# Altium integrated library ST Microcontroller 8-Bit.IntLib: 1326 symbols (part 7 of 31)
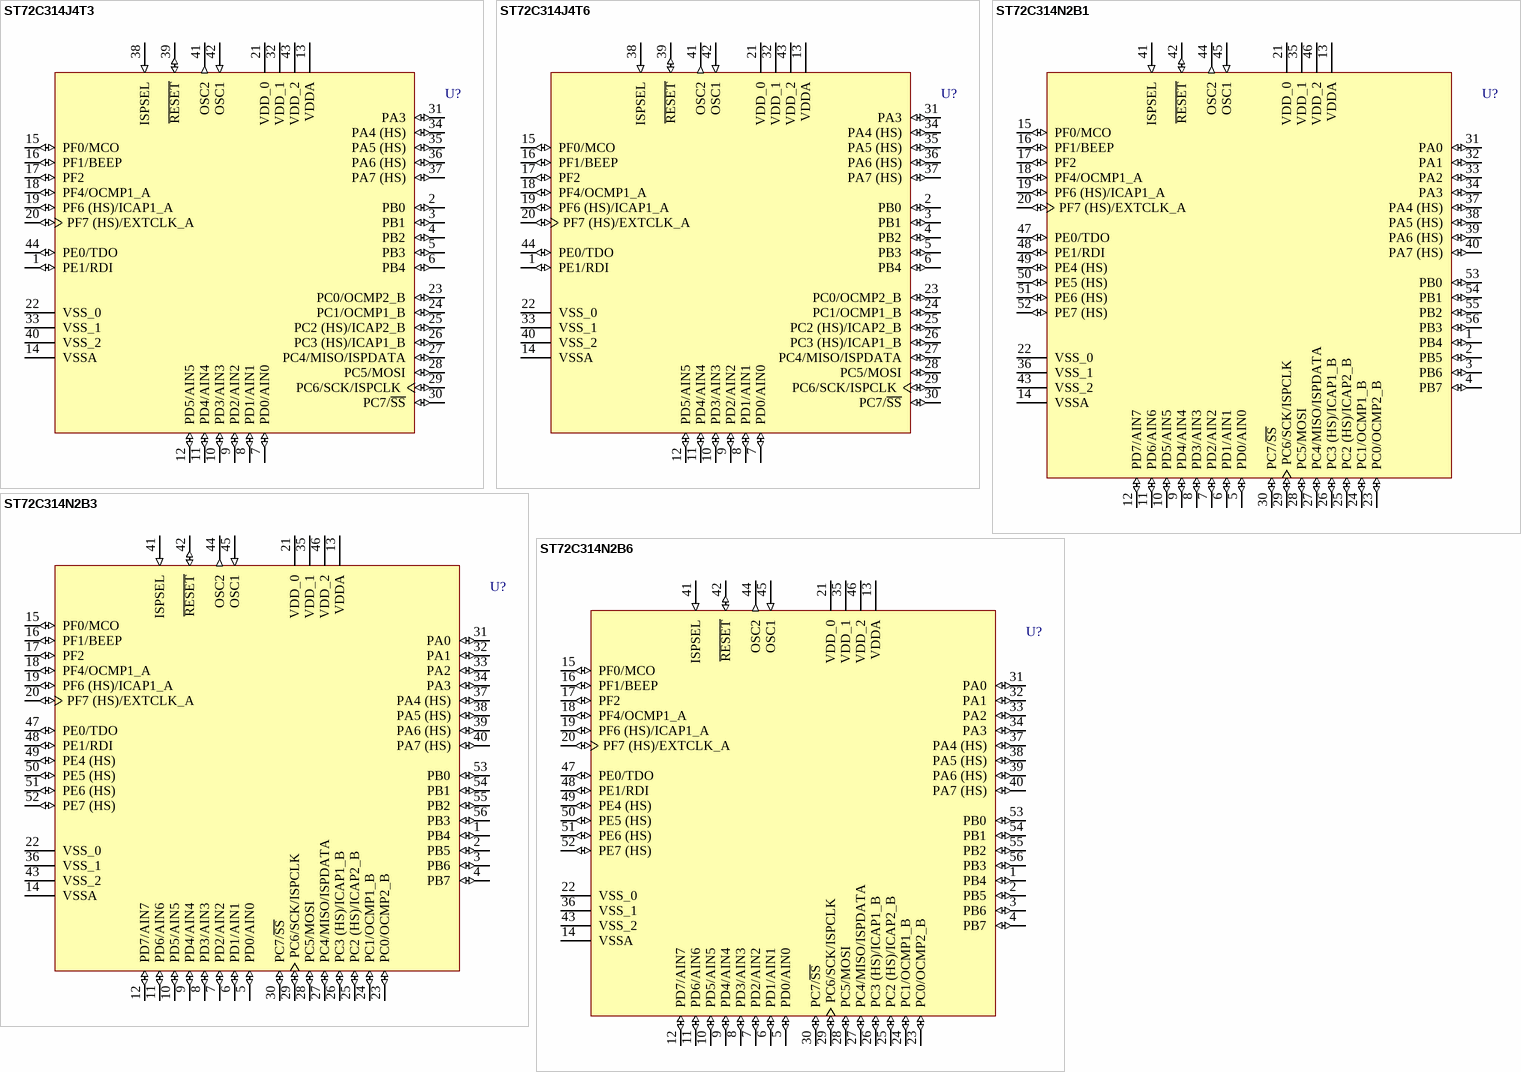
[diagram p173: symbols ST72C314J4T3 to ST72C314N2B6]

## ST72C314N2B3
designator U?
8-Bit MCU with 8k FLASH Memory, 384b RAM, ADC, 16-Bit Timers, SPI and SCI Interface, 56-Pin PDIP, Automotive; Note: Pins 1-4, 15-17, 31-34 and 53-56 are External Interrupt (EI) pins.; Published: 26-May-2004; DatasheetDocument: rev2.5, Apr-2003; PackageDocument: Jan-2002; PackageReference: PSDIP56; Publisher: Altium Limited
footprint PSDIP56 (DIP, Plastic Shrink; 56 Leads; Row Spacing 15.24 mm; Pitch 1.78 mm)
pins: 1 PB4 (io), 2 PB5 (io), 3 PB6 (io), 4 PB7 (io), 5 PD0/AIN0 (io), 6 PD1/AIN1 (io), 7 PD2/AIN2 (io), 8 PD3/AIN3 (io), 9 PD4/AIN4 (io), 10 PD5/AIN5 (io), 11 PD6/AIN6 (io), 12 PD7/AIN7 (io), 13 VDDA (power), 14 VSSA (power), 15 PF0/MCO (io), 16 PF1/BEEP (io), 17 PF2 (io), 18 PF4/OCMP1_A (io), 19 PF6 (HS)/ICAP1_A (io), 20 PF7 (HS)/EXTCLK_A (io), 21 VDD_0 (power), 22 VSS_0 (power), 23 PC0/OCMP2_B (io), 24 PC1/OCMP1_B (io), 25 PC2 (HS)/ICAP2_B (io), 26 PC3 (HS)/ICAP1_B (io), 27 PC4/MISO/ISPDATA (io), 28 PC5/MOSI (io), 29 PC6/SCK/ISPCLK (io), 30 PC7/~{SS} (io), 31 PA0 (io), 32 PA1 (io), 33 PA2 (io), 34 PA3 (io), 35 VDD_1 (power), 36 VSS_1 (power), 37 PA4 (HS) (io), 38 PA5 (HS) (io), 39 PA6 (HS) (io), 40 PA7 (HS) (io), 41 ISPSEL (in), 42 ~{RESET} (io), 43 VSS_2 (power), 44 OSC2 (out), 45 OSC1 (in), 46 VDD_2 (power), 47 PE0/TDO (io), 48 PE1/RDI (io), 49 PE4 (HS) (io), 50 PE5 (HS) (io), 51 PE6 (HS) (io), 52 PE7 (HS) (io), 53 PB0 (io), 54 PB1 (io), 55 PB2 (io), 56 PB3 (io)

## ST72C314N2B6
designator U?
8-Bit MCU with 8k FLASH Memory, 384b RAM, ADC, 16-Bit Timers, SPI and SCI Interface, 56-Pin PDIP, Industrial; Note: Pins 1-4, 15-17, 31-34 and 53-56 are External Interrupt (EI) pins.; Published: 26-May-2004; DatasheetDocument: rev2.5, Apr-2003; PackageDocument: Jan-2002; PackageReference: PSDIP56; Publisher: Altium Limited
footprint PSDIP56 (DIP, Plastic Shrink; 56 Leads; Row Spacing 15.24 mm; Pitch 1.78 mm)
pins: 1 PB4 (io), 2 PB5 (io), 3 PB6 (io), 4 PB7 (io), 5 PD0/AIN0 (io), 6 PD1/AIN1 (io), 7 PD2/AIN2 (io), 8 PD3/AIN3 (io), 9 PD4/AIN4 (io), 10 PD5/AIN5 (io), 11 PD6/AIN6 (io), 12 PD7/AIN7 (io), 13 VDDA (power), 14 VSSA (power), 15 PF0/MCO (io), 16 PF1/BEEP (io), 17 PF2 (io), 18 PF4/OCMP1_A (io), 19 PF6 (HS)/ICAP1_A (io), 20 PF7 (HS)/EXTCLK_A (io), 21 VDD_0 (power), 22 VSS_0 (power), 23 PC0/OCMP2_B (io), 24 PC1/OCMP1_B (io), 25 PC2 (HS)/ICAP2_B (io), 26 PC3 (HS)/ICAP1_B (io), 27 PC4/MISO/ISPDATA (io), 28 PC5/MOSI (io), 29 PC6/SCK/ISPCLK (io), 30 PC7/~{SS} (io), 31 PA0 (io), 32 PA1 (io), 33 PA2 (io), 34 PA3 (io), 35 VDD_1 (power), 36 VSS_1 (power), 37 PA4 (HS) (io), 38 PA5 (HS) (io), 39 PA6 (HS) (io), 40 PA7 (HS) (io), 41 ISPSEL (in), 42 ~{RESET} (io), 43 VSS_2 (power), 44 OSC2 (out), 45 OSC1 (in), 46 VDD_2 (power), 47 PE0/TDO (io), 48 PE1/RDI (io), 49 PE4 (HS) (io), 50 PE5 (HS) (io), 51 PE6 (HS) (io), 52 PE7 (HS) (io), 53 PB0 (io), 54 PB1 (io), 55 PB2 (io), 56 PB3 (io)

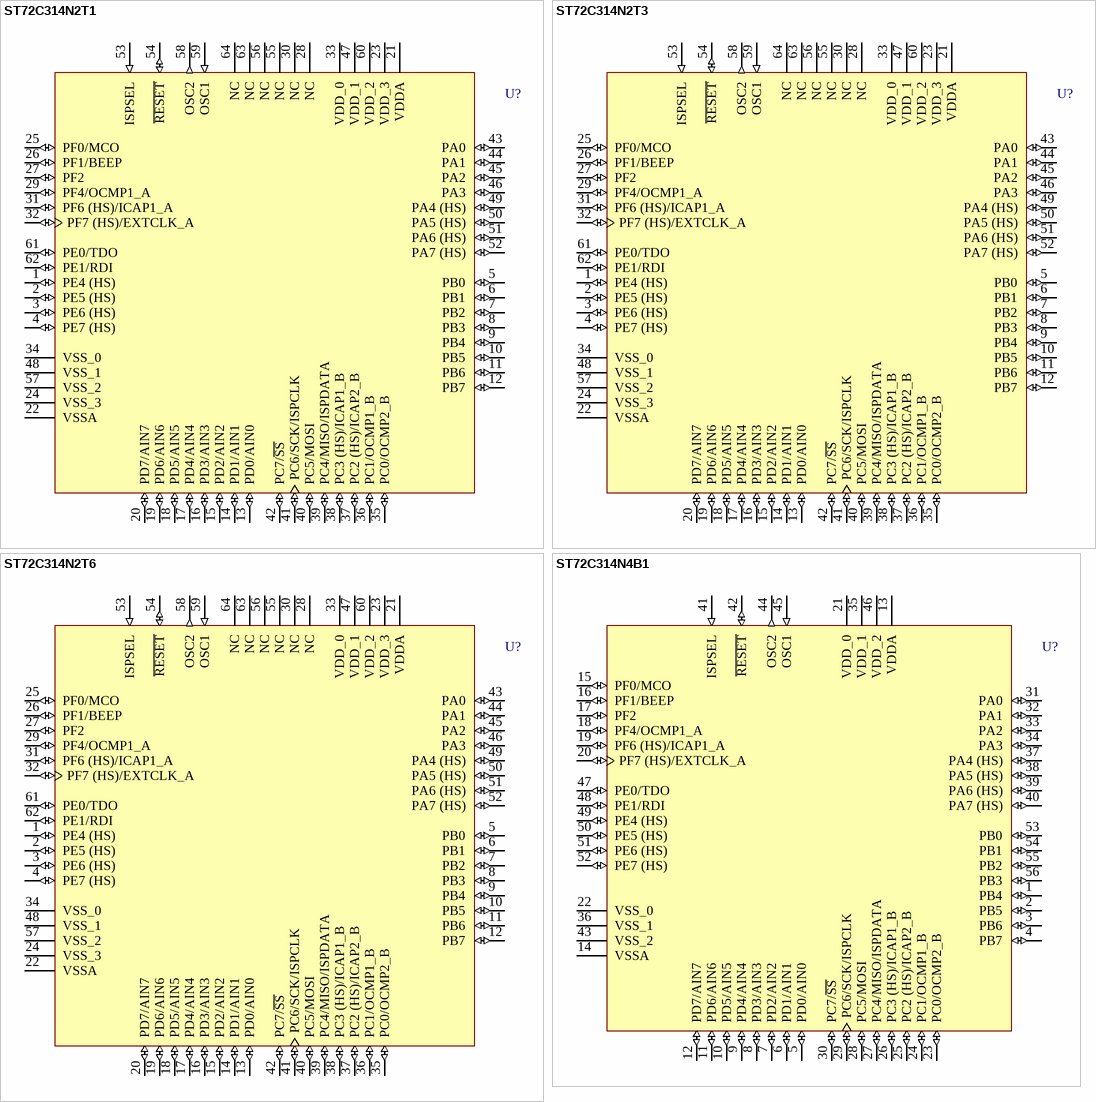
[diagram p26: symbols ST72C314N2T1 to ST72C314N4B1]

## ST72C314N2T1
designator U?
8-Bit MCU with 8k FLASH Memory, 384b RAM, ADC, 16-Bit Timers, SPI and SCI Interface, 64-Pin TQFP, Standard; PackageDocument: rev2.4, Jan-2002; Note: Pins 5-12, 25-27 and 43-46 are External Interrupt (EI) pins.; Published: 26-May-2004; DatasheetDocument: rev2.5, Apr-2003; PackageReference: TQFP64-0.8; Publisher: Altium Limited
footprint TQFP64-0.8 (QFP, Thin; 64 Leads; Body 14 x 14 mm; Pitch 0.8 mm)
pins: 1 PE4 (HS) (io), 2 PE5 (HS) (io), 3 PE6 (HS) (io), 4 PE7 (HS) (io), 5 PB0 (io), 6 PB1 (io), 7 PB2 (io), 8 PB3 (io), 9 PB4 (io), 10 PB5 (io), 11 PB6 (io), 12 PB7 (io), 13 PD0/AIN0 (io), 14 PD1/AIN1 (io), 15 PD2/AIN2 (io), 16 PD3/AIN3 (io), 17 PD4/AIN4 (io), 18 PD5/AIN5 (io), 19 PD6/AIN6 (io), 20 PD7/AIN7 (io), 21 VDDA (power), 22 VSSA (power), 23 VDD_3 (power), 24 VSS_3 (power), 25 PF0/MCO (io), 26 PF1/BEEP (io), 27 PF2 (io), 28 NC, 29 PF4/OCMP1_A (io), 30 NC, 31 PF6 (HS)/ICAP1_A (io), 32 PF7 (HS)/EXTCLK_A (io), 33 VDD_0 (power), 34 VSS_0 (power), 35 PC0/OCMP2_B (io), 36 PC1/OCMP1_B (io), 37 PC2 (HS)/ICAP2_B (io), 38 PC3 (HS)/ICAP1_B (io), 39 PC4/MISO/ISPDATA (io), 40 PC5/MOSI (io), 41 PC6/SCK/ISPCLK (io), 42 PC7/~{SS} (io), 43 PA0 (io), 44 PA1 (io), 45 PA2 (io), 46 PA3 (io), 47 VDD_1 (power), 48 VSS_1 (power), 49 PA4 (HS) (io), 50 PA5 (HS) (io), 51 PA6 (HS) (io), 52 PA7 (HS) (io), 53 ISPSEL (in), 54 ~{RESET} (io), 55 NC, 56 NC, 57 VSS_2 (power), 58 OSC2 (out), 59 OSC1 (in), 60 VDD_2 (power), 61 PE0/TDO (io), 62 PE1/RDI (io), 63 NC, 64 NC

## ST72C314N2T3
designator U?
8-Bit MCU with 8k FLASH Memory, 384b RAM, ADC, 16-Bit Timers, SPI and SCI Interface, 64-Pin TQFP, Automotive; PackageDocument: rev2.4, Jan-2002; Note: Pins 5-12, 25-27 and 43-46 are External Interrupt (EI) pins.; Published: 26-May-2004; DatasheetDocument: rev2.5, Apr-2003; PackageReference: TQFP64-0.8; Publisher: Altium Limited
footprint TQFP64-0.8 (QFP, Thin; 64 Leads; Body 14 x 14 mm; Pitch 0.8 mm)
pins: 1 PE4 (HS) (io), 2 PE5 (HS) (io), 3 PE6 (HS) (io), 4 PE7 (HS) (io), 5 PB0 (io), 6 PB1 (io), 7 PB2 (io), 8 PB3 (io), 9 PB4 (io), 10 PB5 (io), 11 PB6 (io), 12 PB7 (io), 13 PD0/AIN0 (io), 14 PD1/AIN1 (io), 15 PD2/AIN2 (io), 16 PD3/AIN3 (io), 17 PD4/AIN4 (io), 18 PD5/AIN5 (io), 19 PD6/AIN6 (io), 20 PD7/AIN7 (io), 21 VDDA (power), 22 VSSA (power), 23 VDD_3 (power), 24 VSS_3 (power), 25 PF0/MCO (io), 26 PF1/BEEP (io), 27 PF2 (io), 28 NC, 29 PF4/OCMP1_A (io), 30 NC, 31 PF6 (HS)/ICAP1_A (io), 32 PF7 (HS)/EXTCLK_A (io), 33 VDD_0 (power), 34 VSS_0 (power), 35 PC0/OCMP2_B (io), 36 PC1/OCMP1_B (io), 37 PC2 (HS)/ICAP2_B (io), 38 PC3 (HS)/ICAP1_B (io), 39 PC4/MISO/ISPDATA (io), 40 PC5/MOSI (io), 41 PC6/SCK/ISPCLK (io), 42 PC7/~{SS} (io), 43 PA0 (io), 44 PA1 (io), 45 PA2 (io), 46 PA3 (io), 47 VDD_1 (power), 48 VSS_1 (power), 49 PA4 (HS) (io), 50 PA5 (HS) (io), 51 PA6 (HS) (io), 52 PA7 (HS) (io), 53 ISPSEL (in), 54 ~{RESET} (io), 55 NC, 56 NC, 57 VSS_2 (power), 58 OSC2 (out), 59 OSC1 (in), 60 VDD_2 (power), 61 PE0/TDO (io), 62 PE1/RDI (io), 63 NC, 64 NC

## ST72C314N2T6
designator U?
8-Bit MCU with 8k FLASH Memory, 384b RAM, ADC, 16-Bit Timers, SPI and SCI Interface, 64-Pin TQFP, Industrial; PackageDocument: rev2.4, Jan-2002; Note: Pins 5-12, 25-27 and 43-46 are External Interrupt (EI) pins.; Published: 26-May-2004; DatasheetDocument: rev2.5, Apr-2003; PackageReference: TQFP64-0.8; Publisher: Altium Limited
footprint TQFP64-0.8 (QFP, Thin; 64 Leads; Body 14 x 14 mm; Pitch 0.8 mm)
pins: 1 PE4 (HS) (io), 2 PE5 (HS) (io), 3 PE6 (HS) (io), 4 PE7 (HS) (io), 5 PB0 (io), 6 PB1 (io), 7 PB2 (io), 8 PB3 (io), 9 PB4 (io), 10 PB5 (io), 11 PB6 (io), 12 PB7 (io), 13 PD0/AIN0 (io), 14 PD1/AIN1 (io), 15 PD2/AIN2 (io), 16 PD3/AIN3 (io), 17 PD4/AIN4 (io), 18 PD5/AIN5 (io), 19 PD6/AIN6 (io), 20 PD7/AIN7 (io), 21 VDDA (power), 22 VSSA (power), 23 VDD_3 (power), 24 VSS_3 (power), 25 PF0/MCO (io), 26 PF1/BEEP (io), 27 PF2 (io), 28 NC, 29 PF4/OCMP1_A (io), 30 NC, 31 PF6 (HS)/ICAP1_A (io), 32 PF7 (HS)/EXTCLK_A (io), 33 VDD_0 (power), 34 VSS_0 (power), 35 PC0/OCMP2_B (io), 36 PC1/OCMP1_B (io), 37 PC2 (HS)/ICAP2_B (io), 38 PC3 (HS)/ICAP1_B (io), 39 PC4/MISO/ISPDATA (io), 40 PC5/MOSI (io), 41 PC6/SCK/ISPCLK (io), 42 PC7/~{SS} (io), 43 PA0 (io), 44 PA1 (io), 45 PA2 (io), 46 PA3 (io), 47 VDD_1 (power), 48 VSS_1 (power), 49 PA4 (HS) (io), 50 PA5 (HS) (io), 51 PA6 (HS) (io), 52 PA7 (HS) (io), 53 ISPSEL (in), 54 ~{RESET} (io), 55 NC, 56 NC, 57 VSS_2 (power), 58 OSC2 (out), 59 OSC1 (in), 60 VDD_2 (power), 61 PE0/TDO (io), 62 PE1/RDI (io), 63 NC, 64 NC

## ST72C314N4B1
designator U?
8-Bit MCU with 16k FLASH Memory, 512b RAM, ADC, 16-Bit Timers, SPI and SCI Interface, 56-Pin PDIP, Standard; Note: Pins 1-4, 15-17, 31-34 and 53-56 are External Interrupt (EI) pins.; Published: 26-May-2004; DatasheetDocument: rev2.5, Apr-2003; PackageDocument: Jan-2002; PackageReference: PSDIP56; Publisher: Altium Limited
footprint PSDIP56 (DIP, Plastic Shrink; 56 Leads; Row Spacing 15.24 mm; Pitch 1.78 mm)
pins: 1 PB4 (io), 2 PB5 (io), 3 PB6 (io), 4 PB7 (io), 5 PD0/AIN0 (io), 6 PD1/AIN1 (io), 7 PD2/AIN2 (io), 8 PD3/AIN3 (io), 9 PD4/AIN4 (io), 10 PD5/AIN5 (io), 11 PD6/AIN6 (io), 12 PD7/AIN7 (io), 13 VDDA (power), 14 VSSA (power), 15 PF0/MCO (io), 16 PF1/BEEP (io), 17 PF2 (io), 18 PF4/OCMP1_A (io), 19 PF6 (HS)/ICAP1_A (io), 20 PF7 (HS)/EXTCLK_A (io), 21 VDD_0 (power), 22 VSS_0 (power), 23 PC0/OCMP2_B (io), 24 PC1/OCMP1_B (io), 25 PC2 (HS)/ICAP2_B (io), 26 PC3 (HS)/ICAP1_B (io), 27 PC4/MISO/ISPDATA (io), 28 PC5/MOSI (io), 29 PC6/SCK/ISPCLK (io), 30 PC7/~{SS} (io), 31 PA0 (io), 32 PA1 (io), 33 PA2 (io), 34 PA3 (io), 35 VDD_1 (power), 36 VSS_1 (power), 37 PA4 (HS) (io), 38 PA5 (HS) (io), 39 PA6 (HS) (io), 40 PA7 (HS) (io), 41 ISPSEL (in), 42 ~{RESET} (io), 43 VSS_2 (power), 44 OSC2 (out), 45 OSC1 (in), 46 VDD_2 (power), 47 PE0/TDO (io), 48 PE1/RDI (io), 49 PE4 (HS) (io), 50 PE5 (HS) (io), 51 PE6 (HS) (io), 52 PE7 (HS) (io), 53 PB0 (io), 54 PB1 (io), 55 PB2 (io), 56 PB3 (io)

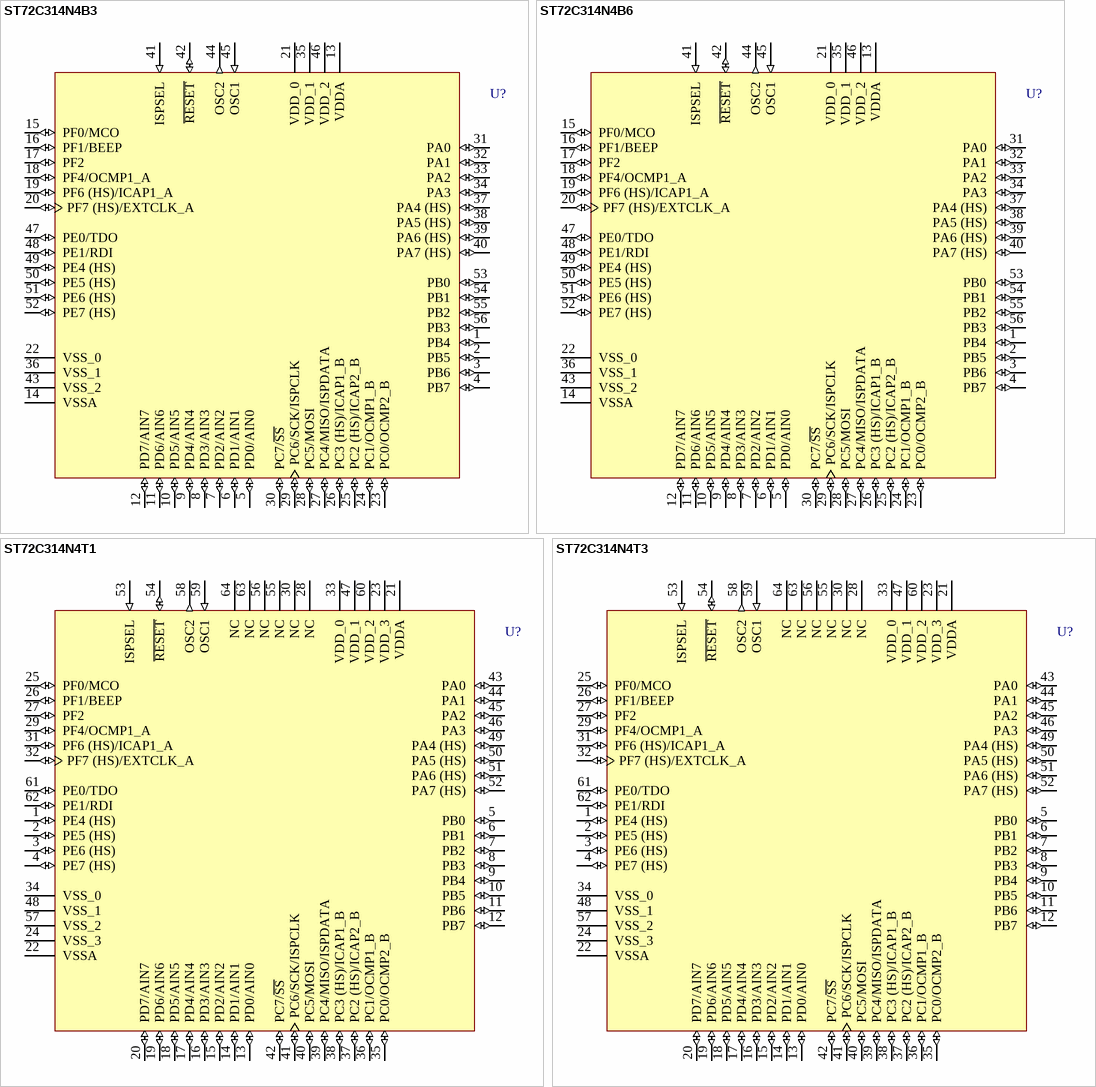
[diagram p27: symbols ST72C314N4B3 to ST72C314N4T3]

## ST72C314N4B3
designator U?
8-Bit MCU with 16k FLASH Memory, 512b RAM, ADC, 16-Bit Timers, SPI and SCI Interface, 56-Pin PDIP, Automotive; Note: Pins 1-4, 15-17, 31-34 and 53-56 are External Interrupt (EI) pins.; Published: 26-May-2004; DatasheetDocument: rev2.5, Apr-2003; PackageDocument: Jan-2002; PackageReference: PSDIP56; Publisher: Altium Limited
footprint PSDIP56 (DIP, Plastic Shrink; 56 Leads; Row Spacing 15.24 mm; Pitch 1.78 mm)
pins: 1 PB4 (io), 2 PB5 (io), 3 PB6 (io), 4 PB7 (io), 5 PD0/AIN0 (io), 6 PD1/AIN1 (io), 7 PD2/AIN2 (io), 8 PD3/AIN3 (io), 9 PD4/AIN4 (io), 10 PD5/AIN5 (io), 11 PD6/AIN6 (io), 12 PD7/AIN7 (io), 13 VDDA (power), 14 VSSA (power), 15 PF0/MCO (io), 16 PF1/BEEP (io), 17 PF2 (io), 18 PF4/OCMP1_A (io), 19 PF6 (HS)/ICAP1_A (io), 20 PF7 (HS)/EXTCLK_A (io), 21 VDD_0 (power), 22 VSS_0 (power), 23 PC0/OCMP2_B (io), 24 PC1/OCMP1_B (io), 25 PC2 (HS)/ICAP2_B (io), 26 PC3 (HS)/ICAP1_B (io), 27 PC4/MISO/ISPDATA (io), 28 PC5/MOSI (io), 29 PC6/SCK/ISPCLK (io), 30 PC7/~{SS} (io), 31 PA0 (io), 32 PA1 (io), 33 PA2 (io), 34 PA3 (io), 35 VDD_1 (power), 36 VSS_1 (power), 37 PA4 (HS) (io), 38 PA5 (HS) (io), 39 PA6 (HS) (io), 40 PA7 (HS) (io), 41 ISPSEL (in), 42 ~{RESET} (io), 43 VSS_2 (power), 44 OSC2 (out), 45 OSC1 (in), 46 VDD_2 (power), 47 PE0/TDO (io), 48 PE1/RDI (io), 49 PE4 (HS) (io), 50 PE5 (HS) (io), 51 PE6 (HS) (io), 52 PE7 (HS) (io), 53 PB0 (io), 54 PB1 (io), 55 PB2 (io), 56 PB3 (io)

## ST72C314N4B6
designator U?
8-Bit MCU with 16k FLASH Memory, 512b RAM, ADC, 16-Bit Timers, SPI and SCI Interface, 56-Pin PDIP, Industrial; Note: Pins 1-4, 15-17, 31-34 and 53-56 are External Interrupt (EI) pins.; Published: 26-May-2004; DatasheetDocument: rev2.5, Apr-2003; PackageDocument: Jan-2002; PackageReference: PSDIP56; Publisher: Altium Limited
footprint PSDIP56 (DIP, Plastic Shrink; 56 Leads; Row Spacing 15.24 mm; Pitch 1.78 mm)
pins: 1 PB4 (io), 2 PB5 (io), 3 PB6 (io), 4 PB7 (io), 5 PD0/AIN0 (io), 6 PD1/AIN1 (io), 7 PD2/AIN2 (io), 8 PD3/AIN3 (io), 9 PD4/AIN4 (io), 10 PD5/AIN5 (io), 11 PD6/AIN6 (io), 12 PD7/AIN7 (io), 13 VDDA (power), 14 VSSA (power), 15 PF0/MCO (io), 16 PF1/BEEP (io), 17 PF2 (io), 18 PF4/OCMP1_A (io), 19 PF6 (HS)/ICAP1_A (io), 20 PF7 (HS)/EXTCLK_A (io), 21 VDD_0 (power), 22 VSS_0 (power), 23 PC0/OCMP2_B (io), 24 PC1/OCMP1_B (io), 25 PC2 (HS)/ICAP2_B (io), 26 PC3 (HS)/ICAP1_B (io), 27 PC4/MISO/ISPDATA (io), 28 PC5/MOSI (io), 29 PC6/SCK/ISPCLK (io), 30 PC7/~{SS} (io), 31 PA0 (io), 32 PA1 (io), 33 PA2 (io), 34 PA3 (io), 35 VDD_1 (power), 36 VSS_1 (power), 37 PA4 (HS) (io), 38 PA5 (HS) (io), 39 PA6 (HS) (io), 40 PA7 (HS) (io), 41 ISPSEL (in), 42 ~{RESET} (io), 43 VSS_2 (power), 44 OSC2 (out), 45 OSC1 (in), 46 VDD_2 (power), 47 PE0/TDO (io), 48 PE1/RDI (io), 49 PE4 (HS) (io), 50 PE5 (HS) (io), 51 PE6 (HS) (io), 52 PE7 (HS) (io), 53 PB0 (io), 54 PB1 (io), 55 PB2 (io), 56 PB3 (io)

## ST72C314N4T1
designator U?
8-Bit MCU with 16k FLASH Memory, 512b RAM, ADC, 16-Bit Timers, SPI and SCI Interface, 64-Pin TQFP, Standard; PackageDocument: rev2.4, Jan-2002; Note: Pins 5-12, 25-27 and 43-46 are External Interrupt (EI) pins.; Published: 26-May-2004; DatasheetDocument: rev2.5, Apr-2003; PackageReference: TQFP64-0.8; Publisher: Altium Limited
footprint TQFP64-0.8 (QFP, Thin; 64 Leads; Body 14 x 14 mm; Pitch 0.8 mm)
pins: 1 PE4 (HS) (io), 2 PE5 (HS) (io), 3 PE6 (HS) (io), 4 PE7 (HS) (io), 5 PB0 (io), 6 PB1 (io), 7 PB2 (io), 8 PB3 (io), 9 PB4 (io), 10 PB5 (io), 11 PB6 (io), 12 PB7 (io), 13 PD0/AIN0 (io), 14 PD1/AIN1 (io), 15 PD2/AIN2 (io), 16 PD3/AIN3 (io), 17 PD4/AIN4 (io), 18 PD5/AIN5 (io), 19 PD6/AIN6 (io), 20 PD7/AIN7 (io), 21 VDDA (power), 22 VSSA (power), 23 VDD_3 (power), 24 VSS_3 (power), 25 PF0/MCO (io), 26 PF1/BEEP (io), 27 PF2 (io), 28 NC, 29 PF4/OCMP1_A (io), 30 NC, 31 PF6 (HS)/ICAP1_A (io), 32 PF7 (HS)/EXTCLK_A (io), 33 VDD_0 (power), 34 VSS_0 (power), 35 PC0/OCMP2_B (io), 36 PC1/OCMP1_B (io), 37 PC2 (HS)/ICAP2_B (io), 38 PC3 (HS)/ICAP1_B (io), 39 PC4/MISO/ISPDATA (io), 40 PC5/MOSI (io), 41 PC6/SCK/ISPCLK (io), 42 PC7/~{SS} (io), 43 PA0 (io), 44 PA1 (io), 45 PA2 (io), 46 PA3 (io), 47 VDD_1 (power), 48 VSS_1 (power), 49 PA4 (HS) (io), 50 PA5 (HS) (io), 51 PA6 (HS) (io), 52 PA7 (HS) (io), 53 ISPSEL (in), 54 ~{RESET} (io), 55 NC, 56 NC, 57 VSS_2 (power), 58 OSC2 (out), 59 OSC1 (in), 60 VDD_2 (power), 61 PE0/TDO (io), 62 PE1/RDI (io), 63 NC, 64 NC

## ST72C314N4T3
designator U?
8-Bit MCU with 16k FLASH Memory, 512b RAM, ADC, 16-Bit Timers, SPI and SCI Interface, 64-Pin TQFP, Automotive; PackageDocument: rev2.4, Jan-2002; Note: Pins 5-12, 25-27 and 43-46 are External Interrupt (EI) pins.; Published: 26-May-2004; DatasheetDocument: rev2.5, Apr-2003; PackageReference: TQFP64-0.8; Publisher: Altium Limited
footprint TQFP64-0.8 (QFP, Thin; 64 Leads; Body 14 x 14 mm; Pitch 0.8 mm)
pins: 1 PE4 (HS) (io), 2 PE5 (HS) (io), 3 PE6 (HS) (io), 4 PE7 (HS) (io), 5 PB0 (io), 6 PB1 (io), 7 PB2 (io), 8 PB3 (io), 9 PB4 (io), 10 PB5 (io), 11 PB6 (io), 12 PB7 (io), 13 PD0/AIN0 (io), 14 PD1/AIN1 (io), 15 PD2/AIN2 (io), 16 PD3/AIN3 (io), 17 PD4/AIN4 (io), 18 PD5/AIN5 (io), 19 PD6/AIN6 (io), 20 PD7/AIN7 (io), 21 VDDA (power), 22 VSSA (power), 23 VDD_3 (power), 24 VSS_3 (power), 25 PF0/MCO (io), 26 PF1/BEEP (io), 27 PF2 (io), 28 NC, 29 PF4/OCMP1_A (io), 30 NC, 31 PF6 (HS)/ICAP1_A (io), 32 PF7 (HS)/EXTCLK_A (io), 33 VDD_0 (power), 34 VSS_0 (power), 35 PC0/OCMP2_B (io), 36 PC1/OCMP1_B (io), 37 PC2 (HS)/ICAP2_B (io), 38 PC3 (HS)/ICAP1_B (io), 39 PC4/MISO/ISPDATA (io), 40 PC5/MOSI (io), 41 PC6/SCK/ISPCLK (io), 42 PC7/~{SS} (io), 43 PA0 (io), 44 PA1 (io), 45 PA2 (io), 46 PA3 (io), 47 VDD_1 (power), 48 VSS_1 (power), 49 PA4 (HS) (io), 50 PA5 (HS) (io), 51 PA6 (HS) (io), 52 PA7 (HS) (io), 53 ISPSEL (in), 54 ~{RESET} (io), 55 NC, 56 NC, 57 VSS_2 (power), 58 OSC2 (out), 59 OSC1 (in), 60 VDD_2 (power), 61 PE0/TDO (io), 62 PE1/RDI (io), 63 NC, 64 NC

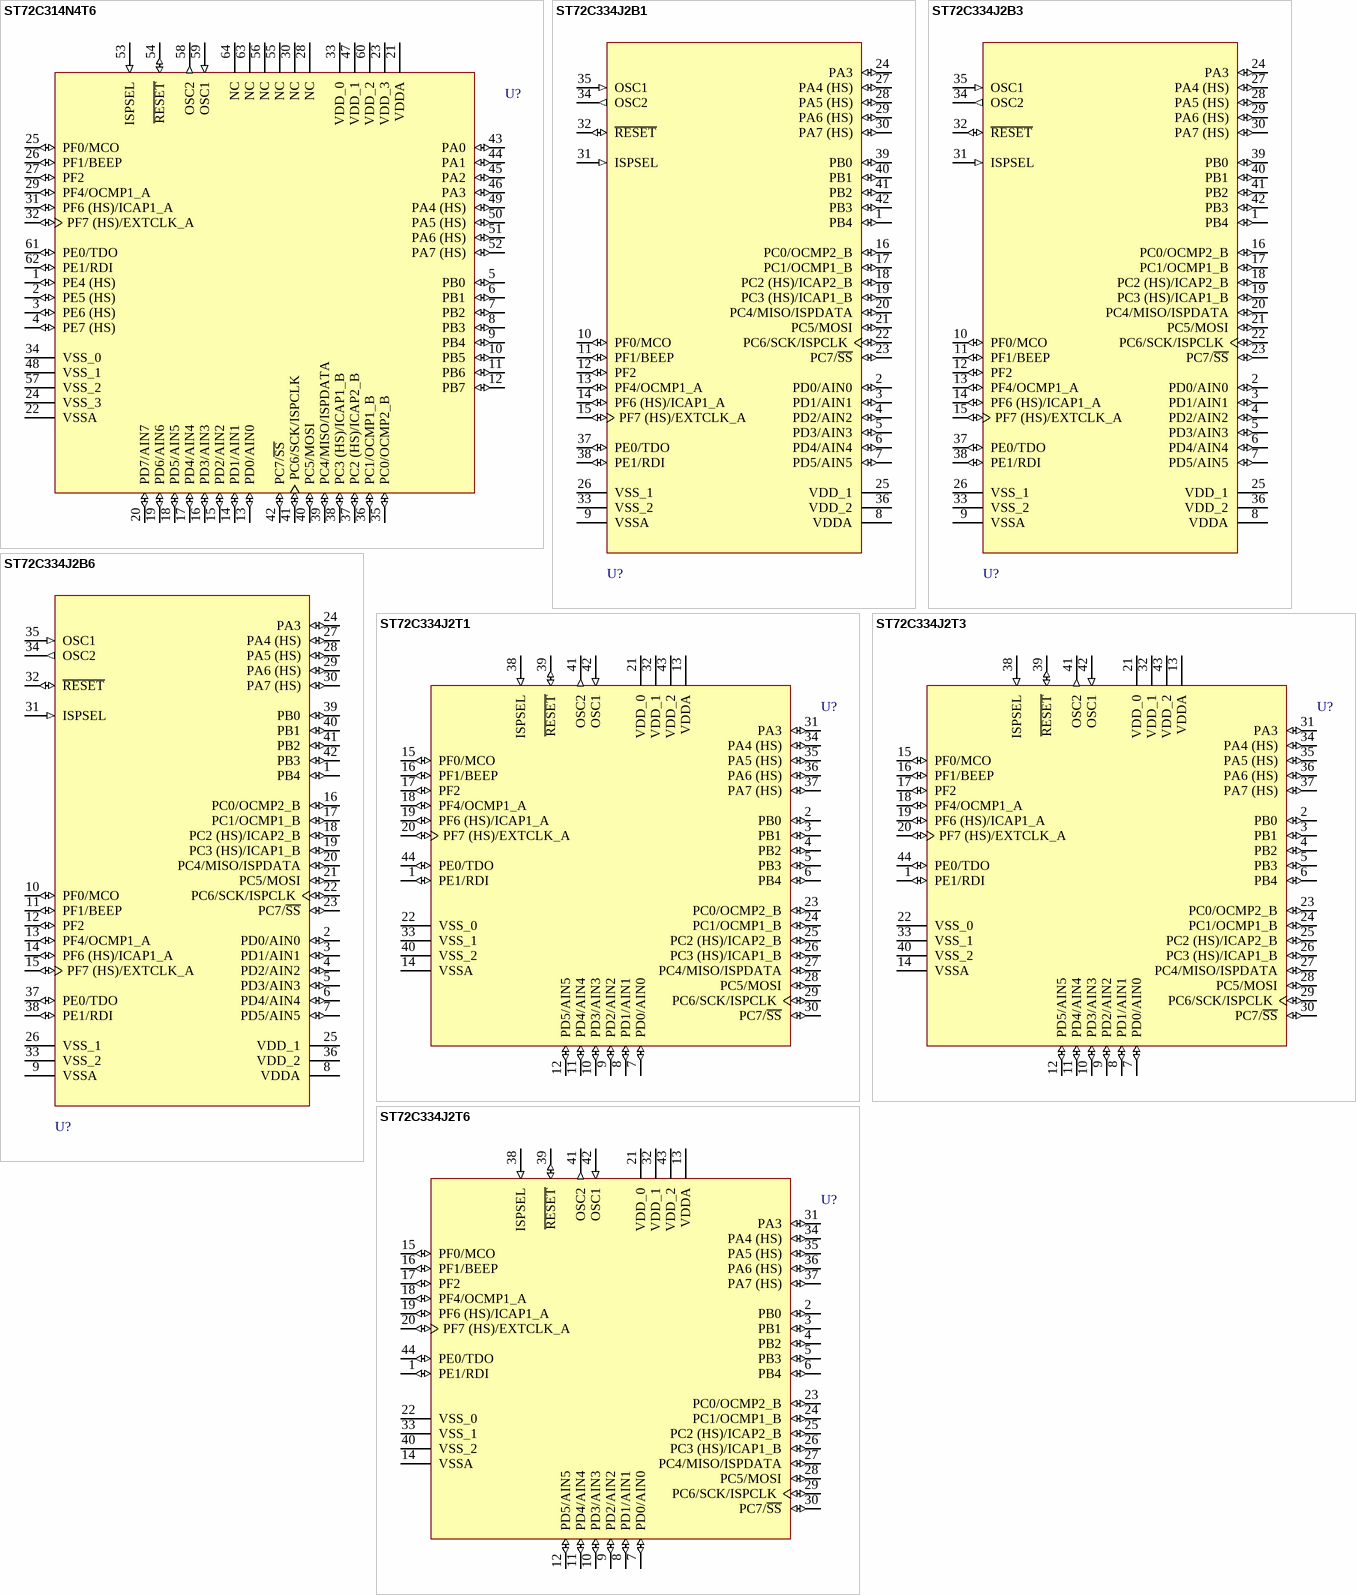
[diagram p28: symbols ST72C314N4T6 to ST72C334J2T6]

## ST72C314N4T6
designator U?
8-Bit MCU with 16k FLASH Memory, 512b RAM, ADC, 16-Bit Timers, SPI and SCI Interface, 64-Pin TQFP, Industrial; PackageDocument: rev2.4, Jan-2002; Note: Pins 5-12, 25-27 and 43-46 are External Interrupt (EI) pins.; Published: 26-May-2004; DatasheetDocument: rev2.5, Apr-2003; PackageReference: TQFP64-0.8; Publisher: Altium Limited
footprint TQFP64-0.8 (QFP, Thin; 64 Leads; Body 14 x 14 mm; Pitch 0.8 mm)
pins: 1 PE4 (HS) (io), 2 PE5 (HS) (io), 3 PE6 (HS) (io), 4 PE7 (HS) (io), 5 PB0 (io), 6 PB1 (io), 7 PB2 (io), 8 PB3 (io), 9 PB4 (io), 10 PB5 (io), 11 PB6 (io), 12 PB7 (io), 13 PD0/AIN0 (io), 14 PD1/AIN1 (io), 15 PD2/AIN2 (io), 16 PD3/AIN3 (io), 17 PD4/AIN4 (io), 18 PD5/AIN5 (io), 19 PD6/AIN6 (io), 20 PD7/AIN7 (io), 21 VDDA (power), 22 VSSA (power), 23 VDD_3 (power), 24 VSS_3 (power), 25 PF0/MCO (io), 26 PF1/BEEP (io), 27 PF2 (io), 28 NC, 29 PF4/OCMP1_A (io), 30 NC, 31 PF6 (HS)/ICAP1_A (io), 32 PF7 (HS)/EXTCLK_A (io), 33 VDD_0 (power), 34 VSS_0 (power), 35 PC0/OCMP2_B (io), 36 PC1/OCMP1_B (io), 37 PC2 (HS)/ICAP2_B (io), 38 PC3 (HS)/ICAP1_B (io), 39 PC4/MISO/ISPDATA (io), 40 PC5/MOSI (io), 41 PC6/SCK/ISPCLK (io), 42 PC7/~{SS} (io), 43 PA0 (io), 44 PA1 (io), 45 PA2 (io), 46 PA3 (io), 47 VDD_1 (power), 48 VSS_1 (power), 49 PA4 (HS) (io), 50 PA5 (HS) (io), 51 PA6 (HS) (io), 52 PA7 (HS) (io), 53 ISPSEL (in), 54 ~{RESET} (io), 55 NC, 56 NC, 57 VSS_2 (power), 58 OSC2 (out), 59 OSC1 (in), 60 VDD_2 (power), 61 PE0/TDO (io), 62 PE1/RDI (io), 63 NC, 64 NC

## ST72C334J2B1
designator U?
8-Bit MCU with 8k FLASH Memory, 384b RAM, 256b EEPROM, ADC, 16-Bit Timers, SPI and SCI Interface, 42-Pin PDIP, Standard; Note: Pins 1, 10-12, 24 and 39-42 are External Interrupt (EI) pins.; Published: 26-May-2004; DatasheetDocument: rev2.5, Apr-2003; PackageDocument: Oct-2003; PackageReference: PSDIP42; Publisher: Altium Limited
footprint PSDIP42 (DIP, Plastic Shrink; 42 Leads; Row Spacing 15.24 mm; Pitch 1.78 mm)
pins: 1 PB4 (io), 2 PD0/AIN0 (io), 3 PD1/AIN1 (io), 4 PD2/AIN2 (io), 5 PD3/AIN3 (io), 6 PD4/AIN4 (io), 7 PD5/AIN5 (io), 8 VDDA (power), 9 VSSA (power), 10 PF0/MCO (io), 11 PF1/BEEP (io), 12 PF2 (io), 13 PF4/OCMP1_A (io), 14 PF6 (HS)/ICAP1_A (io), 15 PF7 (HS)/EXTCLK_A (io), 16 PC0/OCMP2_B (io), 17 PC1/OCMP1_B (io), 18 PC2 (HS)/ICAP2_B (io), 19 PC3 (HS)/ICAP1_B (io), 20 PC4/MISO/ISPDATA (io), 21 PC5/MOSI (io), 22 PC6/SCK/ISPCLK (io), 23 PC7/~{SS} (io), 24 PA3 (io), 25 VDD_1 (power), 26 VSS_1 (power), 27 PA4 (HS) (io), 28 PA5 (HS) (io), 29 PA6 (HS) (io), 30 PA7 (HS) (io), 31 ISPSEL (in), 32 ~{RESET} (io), 33 VSS_2 (power), 34 OSC2 (out), 35 OSC1 (in), 36 VDD_2 (power), 37 PE0/TDO (io), 38 PE1/RDI (io), 39 PB0 (io), 40 PB1 (io), 41 PB2 (io), 42 PB3 (io)

## ST72C334J2B3
designator U?
8-Bit MCU with 8k FLASH Memory, 384b RAM, 256b EEPROM, ADC, 16-Bit Timers, SPI and SCI Interface, 42-Pin PDIP, Automotive; Note: Pins 1, 10-12, 24 and 39-42 are External Interrupt (EI) pins.; Published: 26-May-2004; DatasheetDocument: rev2.5, Apr-2003; PackageDocument: Oct-2003; PackageReference: PSDIP42; Publisher: Altium Limited
footprint PSDIP42 (DIP, Plastic Shrink; 42 Leads; Row Spacing 15.24 mm; Pitch 1.78 mm)
pins: 1 PB4 (io), 2 PD0/AIN0 (io), 3 PD1/AIN1 (io), 4 PD2/AIN2 (io), 5 PD3/AIN3 (io), 6 PD4/AIN4 (io), 7 PD5/AIN5 (io), 8 VDDA (power), 9 VSSA (power), 10 PF0/MCO (io), 11 PF1/BEEP (io), 12 PF2 (io), 13 PF4/OCMP1_A (io), 14 PF6 (HS)/ICAP1_A (io), 15 PF7 (HS)/EXTCLK_A (io), 16 PC0/OCMP2_B (io), 17 PC1/OCMP1_B (io), 18 PC2 (HS)/ICAP2_B (io), 19 PC3 (HS)/ICAP1_B (io), 20 PC4/MISO/ISPDATA (io), 21 PC5/MOSI (io), 22 PC6/SCK/ISPCLK (io), 23 PC7/~{SS} (io), 24 PA3 (io), 25 VDD_1 (power), 26 VSS_1 (power), 27 PA4 (HS) (io), 28 PA5 (HS) (io), 29 PA6 (HS) (io), 30 PA7 (HS) (io), 31 ISPSEL (in), 32 ~{RESET} (io), 33 VSS_2 (power), 34 OSC2 (out), 35 OSC1 (in), 36 VDD_2 (power), 37 PE0/TDO (io), 38 PE1/RDI (io), 39 PB0 (io), 40 PB1 (io), 41 PB2 (io), 42 PB3 (io)

## ST72C334J2B6
designator U?
8-Bit MCU with 8k FLASH Memory, 384b RAM, 256b EEPROM, ADC, 16-Bit Timers, SPI and SCI Interface, 42-Pin PDIP, Industrial; Note: Pins 1, 10-12, 24 and 39-42 are External Interrupt (EI) pins.; Published: 26-May-2004; DatasheetDocument: rev2.5, Apr-2003; PackageDocument: Oct-2003; PackageReference: PSDIP42; Publisher: Altium Limited
footprint PSDIP42 (DIP, Plastic Shrink; 42 Leads; Row Spacing 15.24 mm; Pitch 1.78 mm)
pins: 1 PB4 (io), 2 PD0/AIN0 (io), 3 PD1/AIN1 (io), 4 PD2/AIN2 (io), 5 PD3/AIN3 (io), 6 PD4/AIN4 (io), 7 PD5/AIN5 (io), 8 VDDA (power), 9 VSSA (power), 10 PF0/MCO (io), 11 PF1/BEEP (io), 12 PF2 (io), 13 PF4/OCMP1_A (io), 14 PF6 (HS)/ICAP1_A (io), 15 PF7 (HS)/EXTCLK_A (io), 16 PC0/OCMP2_B (io), 17 PC1/OCMP1_B (io), 18 PC2 (HS)/ICAP2_B (io), 19 PC3 (HS)/ICAP1_B (io), 20 PC4/MISO/ISPDATA (io), 21 PC5/MOSI (io), 22 PC6/SCK/ISPCLK (io), 23 PC7/~{SS} (io), 24 PA3 (io), 25 VDD_1 (power), 26 VSS_1 (power), 27 PA4 (HS) (io), 28 PA5 (HS) (io), 29 PA6 (HS) (io), 30 PA7 (HS) (io), 31 ISPSEL (in), 32 ~{RESET} (io), 33 VSS_2 (power), 34 OSC2 (out), 35 OSC1 (in), 36 VDD_2 (power), 37 PE0/TDO (io), 38 PE1/RDI (io), 39 PB0 (io), 40 PB1 (io), 41 PB2 (io), 42 PB3 (io)

## ST72C334J2T1
designator U?
8-Bit MCU with 8k FLASH Memory, 384b RAM, 256b EEPROM, ADC, 16-Bit Timers, SPI and SCI Interface, 44-Pin TQFP, Standard; Note: Pins 2-6, 15-17 and 31 are External Interrupt (EI) pins.; Published: 26-May-2004; DatasheetDocument: rev2.5, Apr-2003; PackageDocument: Oct-2003; PackageReference: TQFP44; Publisher: Altium Limited
footprint TQFP44 (QFP, Plastic, Thin; 44 Leads; Body 10 x 10 mm; Pitch 0.8 mm)
pins: 1 PE1/RDI (io), 2 PB0 (io), 3 PB1 (io), 4 PB2 (io), 5 PB3 (io), 6 PB4 (io), 7 PD0/AIN0 (io), 8 PD1/AIN1 (io), 9 PD2/AIN2 (io), 10 PD3/AIN3 (io), 11 PD4/AIN4 (io), 12 PD5/AIN5 (io), 13 VDDA (power), 14 VSSA (power), 15 PF0/MCO (io), 16 PF1/BEEP (io), 17 PF2 (io), 18 PF4/OCMP1_A (io), 19 PF6 (HS)/ICAP1_A (io), 20 PF7 (HS)/EXTCLK_A (io), 21 VDD_0 (power), 22 VSS_0 (power), 23 PC0/OCMP2_B (io), 24 PC1/OCMP1_B (io), 25 PC2 (HS)/ICAP2_B (io), 26 PC3 (HS)/ICAP1_B (io), 27 PC4/MISO/ISPDATA (io), 28 PC5/MOSI (io), 29 PC6/SCK/ISPCLK (io), 30 PC7/~{SS} (io), 31 PA3 (io), 32 VDD_1 (power), 33 VSS_1 (power), 34 PA4 (HS) (io), 35 PA5 (HS) (io), 36 PA6 (HS) (io), 37 PA7 (HS) (io), 38 ISPSEL (in), 39 ~{RESET} (io), 40 VSS_2 (power), 41 OSC2 (out), 42 OSC1 (in), 43 VDD_2 (power), 44 PE0/TDO (io)

## ST72C334J2T3
designator U?
8-Bit MCU with 8k FLASH Memory, 384b RAM, 256b EEPROM, ADC, 16-Bit Timers, SPI and SCI Interface, 44-Pin TQFP, Automotive; Note: Pins 2-6, 15-17 and 31 are External Interrupt (EI) pins.; Published: 26-May-2004; DatasheetDocument: rev2.5, Apr-2003; PackageDocument: Oct-2003; PackageReference: TQFP44; Publisher: Altium Limited
footprint TQFP44 (QFP, Plastic, Thin; 44 Leads; Body 10 x 10 mm; Pitch 0.8 mm)
pins: 1 PE1/RDI (io), 2 PB0 (io), 3 PB1 (io), 4 PB2 (io), 5 PB3 (io), 6 PB4 (io), 7 PD0/AIN0 (io), 8 PD1/AIN1 (io), 9 PD2/AIN2 (io), 10 PD3/AIN3 (io), 11 PD4/AIN4 (io), 12 PD5/AIN5 (io), 13 VDDA (power), 14 VSSA (power), 15 PF0/MCO (io), 16 PF1/BEEP (io), 17 PF2 (io), 18 PF4/OCMP1_A (io), 19 PF6 (HS)/ICAP1_A (io), 20 PF7 (HS)/EXTCLK_A (io), 21 VDD_0 (power), 22 VSS_0 (power), 23 PC0/OCMP2_B (io), 24 PC1/OCMP1_B (io), 25 PC2 (HS)/ICAP2_B (io), 26 PC3 (HS)/ICAP1_B (io), 27 PC4/MISO/ISPDATA (io), 28 PC5/MOSI (io), 29 PC6/SCK/ISPCLK (io), 30 PC7/~{SS} (io), 31 PA3 (io), 32 VDD_1 (power), 33 VSS_1 (power), 34 PA4 (HS) (io), 35 PA5 (HS) (io), 36 PA6 (HS) (io), 37 PA7 (HS) (io), 38 ISPSEL (in), 39 ~{RESET} (io), 40 VSS_2 (power), 41 OSC2 (out), 42 OSC1 (in), 43 VDD_2 (power), 44 PE0/TDO (io)

## ST72C334J2T6
designator U?
8-Bit MCU with 8k FLASH Memory, 384b RAM, 256b EEPROM, ADC, 16-Bit Timers, SPI and SCI Interface, 44-Pin TQFP, Industrial; Note: Pins 2-6, 15-17 and 31 are External Interrupt (EI) pins.; Published: 26-May-2004; DatasheetDocument: rev2.5, Apr-2003; PackageDocument: Oct-2003; PackageReference: TQFP44; Publisher: Altium Limited
footprint TQFP44 (QFP, Plastic, Thin; 44 Leads; Body 10 x 10 mm; Pitch 0.8 mm)
pins: 1 PE1/RDI (io), 2 PB0 (io), 3 PB1 (io), 4 PB2 (io), 5 PB3 (io), 6 PB4 (io), 7 PD0/AIN0 (io), 8 PD1/AIN1 (io), 9 PD2/AIN2 (io), 10 PD3/AIN3 (io), 11 PD4/AIN4 (io), 12 PD5/AIN5 (io), 13 VDDA (power), 14 VSSA (power), 15 PF0/MCO (io), 16 PF1/BEEP (io), 17 PF2 (io), 18 PF4/OCMP1_A (io), 19 PF6 (HS)/ICAP1_A (io), 20 PF7 (HS)/EXTCLK_A (io), 21 VDD_0 (power), 22 VSS_0 (power), 23 PC0/OCMP2_B (io), 24 PC1/OCMP1_B (io), 25 PC2 (HS)/ICAP2_B (io), 26 PC3 (HS)/ICAP1_B (io), 27 PC4/MISO/ISPDATA (io), 28 PC5/MOSI (io), 29 PC6/SCK/ISPCLK (io), 30 PC7/~{SS} (io), 31 PA3 (io), 32 VDD_1 (power), 33 VSS_1 (power), 34 PA4 (HS) (io), 35 PA5 (HS) (io), 36 PA6 (HS) (io), 37 PA7 (HS) (io), 38 ISPSEL (in), 39 ~{RESET} (io), 40 VSS_2 (power), 41 OSC2 (out), 42 OSC1 (in), 43 VDD_2 (power), 44 PE0/TDO (io)

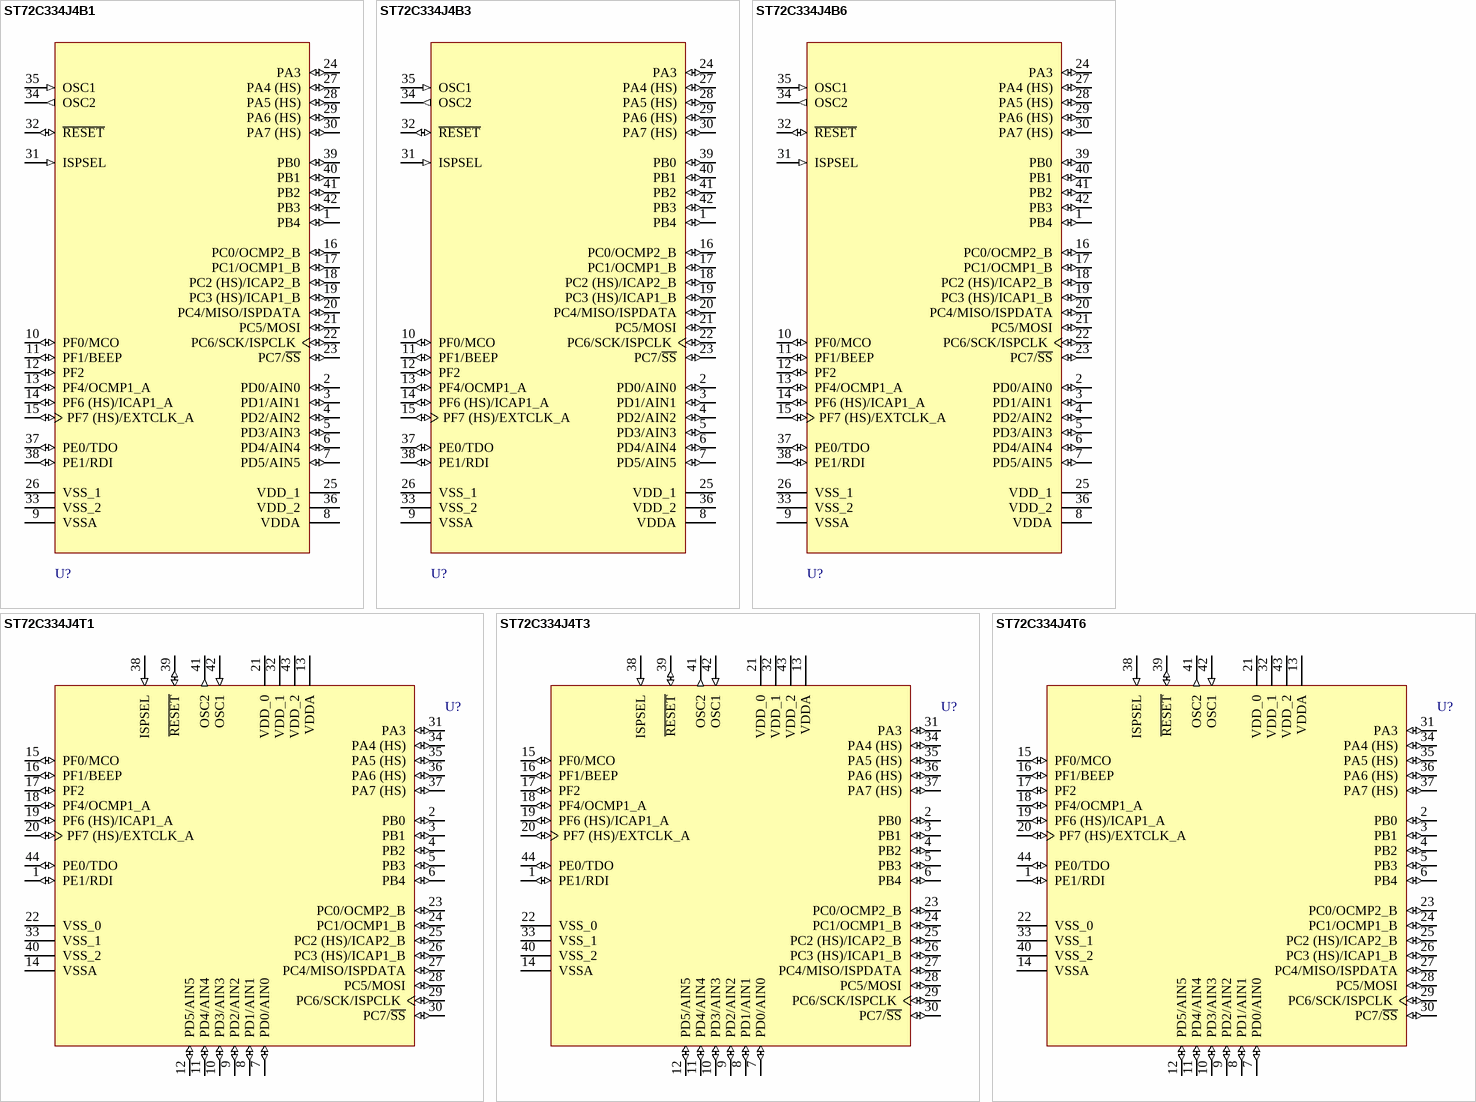
[diagram p29: symbols ST72C334J4B1 to ST72C334J4T6]

## ST72C334J4B1
designator U?
8-Bit MCU with 16k FLASH Memory, 512b RAM, 256b EEPROM, ADC, 16-Bit Timers, SPI and SCI Interface, 42-Pin PDIP, Standard; Note: Pins 1, 10-12, 24 and 39-42 are External Interrupt (EI) pins.; Published: 26-May-2004; DatasheetDocument: rev2.5, Apr-2003; PackageDocument: Oct-2003; PackageReference: PSDIP42; Publisher: Altium Limited
footprint PSDIP42 (DIP, Plastic Shrink; 42 Leads; Row Spacing 15.24 mm; Pitch 1.78 mm)
pins: 1 PB4 (io), 2 PD0/AIN0 (io), 3 PD1/AIN1 (io), 4 PD2/AIN2 (io), 5 PD3/AIN3 (io), 6 PD4/AIN4 (io), 7 PD5/AIN5 (io), 8 VDDA (power), 9 VSSA (power), 10 PF0/MCO (io), 11 PF1/BEEP (io), 12 PF2 (io), 13 PF4/OCMP1_A (io), 14 PF6 (HS)/ICAP1_A (io), 15 PF7 (HS)/EXTCLK_A (io), 16 PC0/OCMP2_B (io), 17 PC1/OCMP1_B (io), 18 PC2 (HS)/ICAP2_B (io), 19 PC3 (HS)/ICAP1_B (io), 20 PC4/MISO/ISPDATA (io), 21 PC5/MOSI (io), 22 PC6/SCK/ISPCLK (io), 23 PC7/~{SS} (io), 24 PA3 (io), 25 VDD_1 (power), 26 VSS_1 (power), 27 PA4 (HS) (io), 28 PA5 (HS) (io), 29 PA6 (HS) (io), 30 PA7 (HS) (io), 31 ISPSEL (in), 32 ~{RESET} (io), 33 VSS_2 (power), 34 OSC2 (out), 35 OSC1 (in), 36 VDD_2 (power), 37 PE0/TDO (io), 38 PE1/RDI (io), 39 PB0 (io), 40 PB1 (io), 41 PB2 (io), 42 PB3 (io)

## ST72C334J4B3
designator U?
8-Bit MCU with 16k FLASH Memory, 512b RAM, 256b EEPROM, ADC, 16-Bit Timers, SPI and SCI Interface, 42-Pin PDIP, Automotive; Note: Pins 1, 10-12, 24 and 39-42 are External Interrupt (EI) pins.; Published: 26-May-2004; DatasheetDocument: rev2.5, Apr-2003; PackageDocument: Oct-2003; PackageReference: PSDIP42; Publisher: Altium Limited
footprint PSDIP42 (DIP, Plastic Shrink; 42 Leads; Row Spacing 15.24 mm; Pitch 1.78 mm)
pins: 1 PB4 (io), 2 PD0/AIN0 (io), 3 PD1/AIN1 (io), 4 PD2/AIN2 (io), 5 PD3/AIN3 (io), 6 PD4/AIN4 (io), 7 PD5/AIN5 (io), 8 VDDA (power), 9 VSSA (power), 10 PF0/MCO (io), 11 PF1/BEEP (io), 12 PF2 (io), 13 PF4/OCMP1_A (io), 14 PF6 (HS)/ICAP1_A (io), 15 PF7 (HS)/EXTCLK_A (io), 16 PC0/OCMP2_B (io), 17 PC1/OCMP1_B (io), 18 PC2 (HS)/ICAP2_B (io), 19 PC3 (HS)/ICAP1_B (io), 20 PC4/MISO/ISPDATA (io), 21 PC5/MOSI (io), 22 PC6/SCK/ISPCLK (io), 23 PC7/~{SS} (io), 24 PA3 (io), 25 VDD_1 (power), 26 VSS_1 (power), 27 PA4 (HS) (io), 28 PA5 (HS) (io), 29 PA6 (HS) (io), 30 PA7 (HS) (io), 31 ISPSEL (in), 32 ~{RESET} (io), 33 VSS_2 (power), 34 OSC2 (out), 35 OSC1 (in), 36 VDD_2 (power), 37 PE0/TDO (io), 38 PE1/RDI (io), 39 PB0 (io), 40 PB1 (io), 41 PB2 (io), 42 PB3 (io)

## ST72C334J4B6
designator U?
8-Bit MCU with 16k FLASH Memory, 512b RAM, 256b EEPROM, ADC, 16-Bit Timers, SPI and SCI Interface, 42-Pin PDIP, Industrial; Note: Pins 1, 10-12, 24 and 39-42 are External Interrupt (EI) pins.; Published: 26-May-2004; DatasheetDocument: rev2.5, Apr-2003; PackageDocument: Oct-2003; PackageReference: PSDIP42; Publisher: Altium Limited
footprint PSDIP42 (DIP, Plastic Shrink; 42 Leads; Row Spacing 15.24 mm; Pitch 1.78 mm)
pins: 1 PB4 (io), 2 PD0/AIN0 (io), 3 PD1/AIN1 (io), 4 PD2/AIN2 (io), 5 PD3/AIN3 (io), 6 PD4/AIN4 (io), 7 PD5/AIN5 (io), 8 VDDA (power), 9 VSSA (power), 10 PF0/MCO (io), 11 PF1/BEEP (io), 12 PF2 (io), 13 PF4/OCMP1_A (io), 14 PF6 (HS)/ICAP1_A (io), 15 PF7 (HS)/EXTCLK_A (io), 16 PC0/OCMP2_B (io), 17 PC1/OCMP1_B (io), 18 PC2 (HS)/ICAP2_B (io), 19 PC3 (HS)/ICAP1_B (io), 20 PC4/MISO/ISPDATA (io), 21 PC5/MOSI (io), 22 PC6/SCK/ISPCLK (io), 23 PC7/~{SS} (io), 24 PA3 (io), 25 VDD_1 (power), 26 VSS_1 (power), 27 PA4 (HS) (io), 28 PA5 (HS) (io), 29 PA6 (HS) (io), 30 PA7 (HS) (io), 31 ISPSEL (in), 32 ~{RESET} (io), 33 VSS_2 (power), 34 OSC2 (out), 35 OSC1 (in), 36 VDD_2 (power), 37 PE0/TDO (io), 38 PE1/RDI (io), 39 PB0 (io), 40 PB1 (io), 41 PB2 (io), 42 PB3 (io)

## ST72C334J4T1
designator U?
8-Bit MCU with 16k FLASH Memory, 512b RAM, 256b EEPROM, ADC, 16-Bit Timers, SPI and SCI Interface, 44-Pin TQFP, Standard; Note: Pins 2-6, 15-17 and 31 are External Interrupt (EI) pins.; Published: 26-May-2004; DatasheetDocument: rev2.5, Apr-2003; PackageDocument: Oct-2003; PackageReference: TQFP44; Publisher: Altium Limited
footprint TQFP44 (QFP, Plastic, Thin; 44 Leads; Body 10 x 10 mm; Pitch 0.8 mm)
pins: 1 PE1/RDI (io), 2 PB0 (io), 3 PB1 (io), 4 PB2 (io), 5 PB3 (io), 6 PB4 (io), 7 PD0/AIN0 (io), 8 PD1/AIN1 (io), 9 PD2/AIN2 (io), 10 PD3/AIN3 (io), 11 PD4/AIN4 (io), 12 PD5/AIN5 (io), 13 VDDA (power), 14 VSSA (power), 15 PF0/MCO (io), 16 PF1/BEEP (io), 17 PF2 (io), 18 PF4/OCMP1_A (io), 19 PF6 (HS)/ICAP1_A (io), 20 PF7 (HS)/EXTCLK_A (io), 21 VDD_0 (power), 22 VSS_0 (power), 23 PC0/OCMP2_B (io), 24 PC1/OCMP1_B (io), 25 PC2 (HS)/ICAP2_B (io), 26 PC3 (HS)/ICAP1_B (io), 27 PC4/MISO/ISPDATA (io), 28 PC5/MOSI (io), 29 PC6/SCK/ISPCLK (io), 30 PC7/~{SS} (io), 31 PA3 (io), 32 VDD_1 (power), 33 VSS_1 (power), 34 PA4 (HS) (io), 35 PA5 (HS) (io), 36 PA6 (HS) (io), 37 PA7 (HS) (io), 38 ISPSEL (in), 39 ~{RESET} (io), 40 VSS_2 (power), 41 OSC2 (out), 42 OSC1 (in), 43 VDD_2 (power), 44 PE0/TDO (io)

## ST72C334J4T3
designator U?
8-Bit MCU with 16k FLASH Memory, 512b RAM, 256b EEPROM, ADC, 16-Bit Timers, SPI and SCI Interface, 44-Pin TQFP, Automotive; Note: Pins 2-6, 15-17 and 31 are External Interrupt (EI) pins.; Published: 26-May-2004; DatasheetDocument: rev2.5, Apr-2003; PackageDocument: Oct-2003; PackageReference: TQFP44; Publisher: Altium Limited
footprint TQFP44 (QFP, Plastic, Thin; 44 Leads; Body 10 x 10 mm; Pitch 0.8 mm)
pins: 1 PE1/RDI (io), 2 PB0 (io), 3 PB1 (io), 4 PB2 (io), 5 PB3 (io), 6 PB4 (io), 7 PD0/AIN0 (io), 8 PD1/AIN1 (io), 9 PD2/AIN2 (io), 10 PD3/AIN3 (io), 11 PD4/AIN4 (io), 12 PD5/AIN5 (io), 13 VDDA (power), 14 VSSA (power), 15 PF0/MCO (io), 16 PF1/BEEP (io), 17 PF2 (io), 18 PF4/OCMP1_A (io), 19 PF6 (HS)/ICAP1_A (io), 20 PF7 (HS)/EXTCLK_A (io), 21 VDD_0 (power), 22 VSS_0 (power), 23 PC0/OCMP2_B (io), 24 PC1/OCMP1_B (io), 25 PC2 (HS)/ICAP2_B (io), 26 PC3 (HS)/ICAP1_B (io), 27 PC4/MISO/ISPDATA (io), 28 PC5/MOSI (io), 29 PC6/SCK/ISPCLK (io), 30 PC7/~{SS} (io), 31 PA3 (io), 32 VDD_1 (power), 33 VSS_1 (power), 34 PA4 (HS) (io), 35 PA5 (HS) (io), 36 PA6 (HS) (io), 37 PA7 (HS) (io), 38 ISPSEL (in), 39 ~{RESET} (io), 40 VSS_2 (power), 41 OSC2 (out), 42 OSC1 (in), 43 VDD_2 (power), 44 PE0/TDO (io)

## ST72C334J4T6
designator U?
8-Bit MCU with 16k FLASH Memory, 512b RAM, 256b EEPROM, ADC, 16-Bit Timers, SPI and SCI Interface, 44-Pin TQFP, Industrial; Note: Pins 2-6, 15-17 and 31 are External Interrupt (EI) pins.; Published: 26-May-2004; DatasheetDocument: rev2.5, Apr-2003; PackageDocument: Oct-2003; PackageReference: TQFP44; Publisher: Altium Limited
footprint TQFP44 (QFP, Plastic, Thin; 44 Leads; Body 10 x 10 mm; Pitch 0.8 mm)
pins: 1 PE1/RDI (io), 2 PB0 (io), 3 PB1 (io), 4 PB2 (io), 5 PB3 (io), 6 PB4 (io), 7 PD0/AIN0 (io), 8 PD1/AIN1 (io), 9 PD2/AIN2 (io), 10 PD3/AIN3 (io), 11 PD4/AIN4 (io), 12 PD5/AIN5 (io), 13 VDDA (power), 14 VSSA (power), 15 PF0/MCO (io), 16 PF1/BEEP (io), 17 PF2 (io), 18 PF4/OCMP1_A (io), 19 PF6 (HS)/ICAP1_A (io), 20 PF7 (HS)/EXTCLK_A (io), 21 VDD_0 (power), 22 VSS_0 (power), 23 PC0/OCMP2_B (io), 24 PC1/OCMP1_B (io), 25 PC2 (HS)/ICAP2_B (io), 26 PC3 (HS)/ICAP1_B (io), 27 PC4/MISO/ISPDATA (io), 28 PC5/MOSI (io), 29 PC6/SCK/ISPCLK (io), 30 PC7/~{SS} (io), 31 PA3 (io), 32 VDD_1 (power), 33 VSS_1 (power), 34 PA4 (HS) (io), 35 PA5 (HS) (io), 36 PA6 (HS) (io), 37 PA7 (HS) (io), 38 ISPSEL (in), 39 ~{RESET} (io), 40 VSS_2 (power), 41 OSC2 (out), 42 OSC1 (in), 43 VDD_2 (power), 44 PE0/TDO (io)

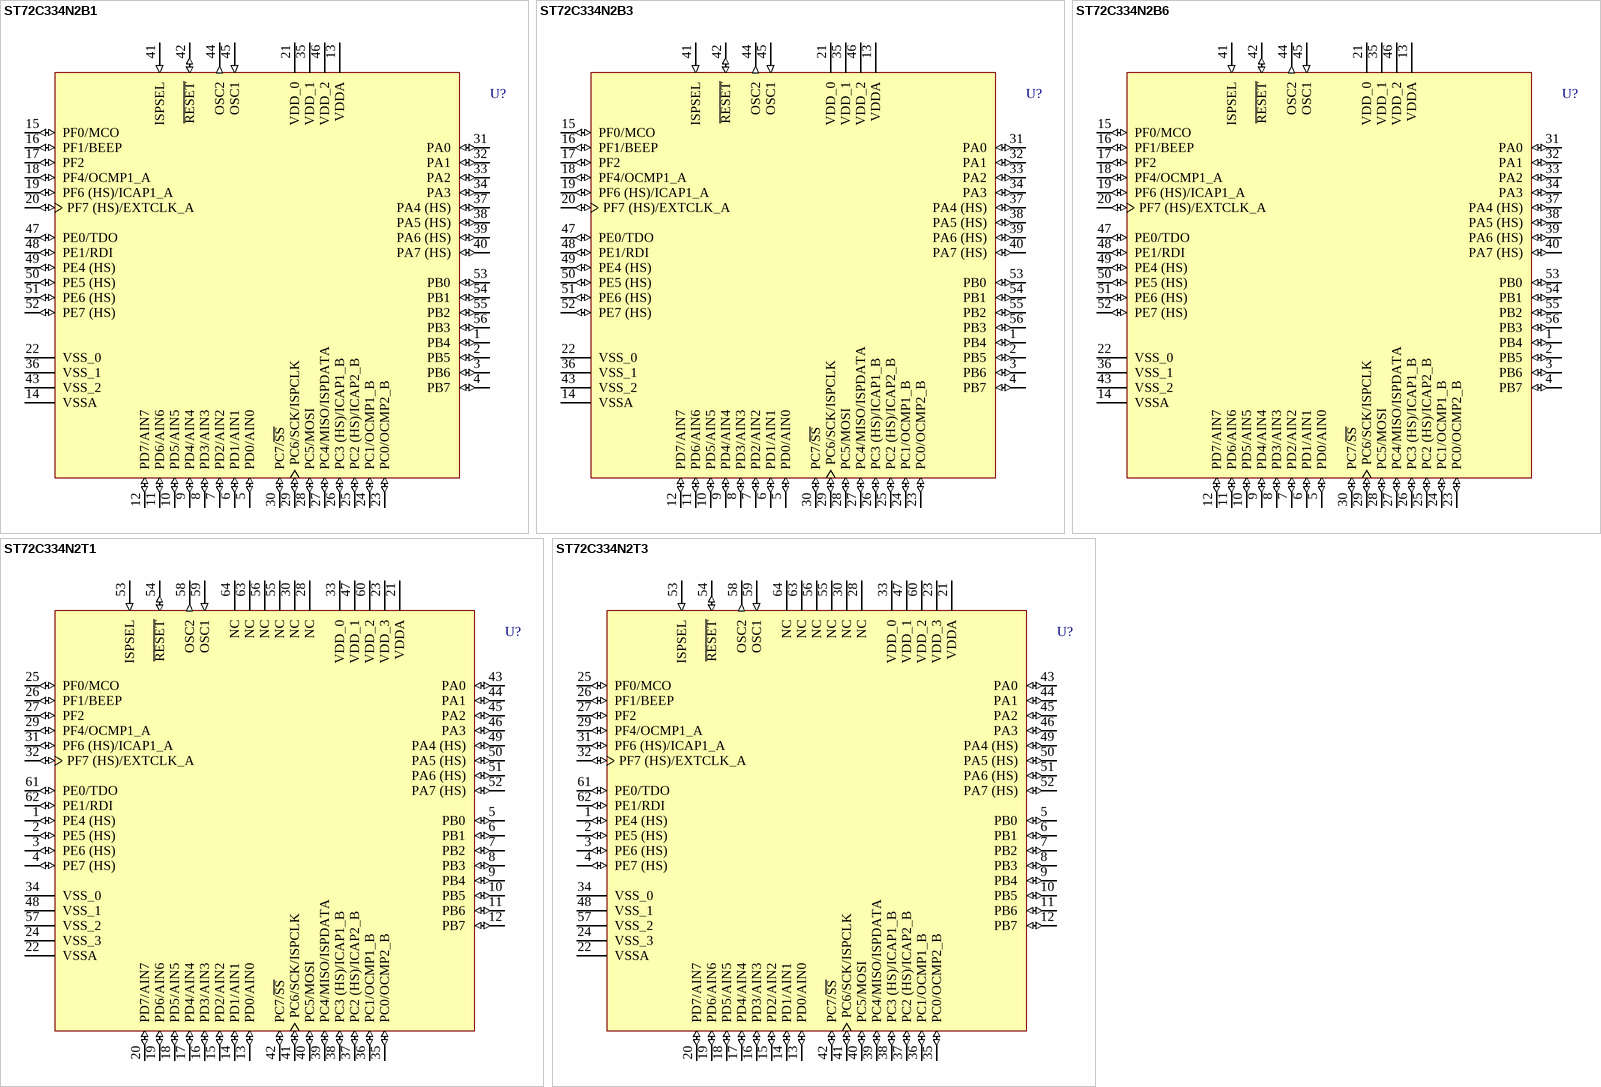
[diagram p30: symbols ST72C334N2B1 to ST72C334N2T3]

## ST72C334N2B1
designator U?
8-Bit MCU with 8k FLASH Memory, 384b RAM, 256b EEPROM, ADC, 16-Bit Timers, SPI and SCI Interface, 56-Pin PDIP, Standard; Note: Pins 1-4, 15-17, 31-34 and 53-56 are External Interrupt (EI) pins.; Published: 26-May-2004; DatasheetDocument: rev2.5, Apr-2003; PackageDocument: Jan-2002; PackageReference: PSDIP56; Publisher: Altium Limited
footprint PSDIP56 (DIP, Plastic Shrink; 56 Leads; Row Spacing 15.24 mm; Pitch 1.78 mm)
pins: 1 PB4 (io), 2 PB5 (io), 3 PB6 (io), 4 PB7 (io), 5 PD0/AIN0 (io), 6 PD1/AIN1 (io), 7 PD2/AIN2 (io), 8 PD3/AIN3 (io), 9 PD4/AIN4 (io), 10 PD5/AIN5 (io), 11 PD6/AIN6 (io), 12 PD7/AIN7 (io), 13 VDDA (power), 14 VSSA (power), 15 PF0/MCO (io), 16 PF1/BEEP (io), 17 PF2 (io), 18 PF4/OCMP1_A (io), 19 PF6 (HS)/ICAP1_A (io), 20 PF7 (HS)/EXTCLK_A (io), 21 VDD_0 (power), 22 VSS_0 (power), 23 PC0/OCMP2_B (io), 24 PC1/OCMP1_B (io), 25 PC2 (HS)/ICAP2_B (io), 26 PC3 (HS)/ICAP1_B (io), 27 PC4/MISO/ISPDATA (io), 28 PC5/MOSI (io), 29 PC6/SCK/ISPCLK (io), 30 PC7/~{SS} (io), 31 PA0 (io), 32 PA1 (io), 33 PA2 (io), 34 PA3 (io), 35 VDD_1 (power), 36 VSS_1 (power), 37 PA4 (HS) (io), 38 PA5 (HS) (io), 39 PA6 (HS) (io), 40 PA7 (HS) (io), 41 ISPSEL (in), 42 ~{RESET} (io), 43 VSS_2 (power), 44 OSC2 (out), 45 OSC1 (in), 46 VDD_2 (power), 47 PE0/TDO (io), 48 PE1/RDI (io), 49 PE4 (HS) (io), 50 PE5 (HS) (io), 51 PE6 (HS) (io), 52 PE7 (HS) (io), 53 PB0 (io), 54 PB1 (io), 55 PB2 (io), 56 PB3 (io)

## ST72C334N2B3
designator U?
8-Bit MCU with 8k FLASH Memory, 384b RAM, 256b EEPROM, ADC, 16-Bit Timers, SPI and SCI Interface, 56-Pin PDIP, Automotive; Note: Pins 1-4, 15-17, 31-34 and 53-56 are External Interrupt (EI) pins.; Published: 26-May-2004; DatasheetDocument: rev2.5, Apr-2003; PackageDocument: Jan-2002; PackageReference: PSDIP56; Publisher: Altium Limited
footprint PSDIP56 (DIP, Plastic Shrink; 56 Leads; Row Spacing 15.24 mm; Pitch 1.78 mm)
pins: 1 PB4 (io), 2 PB5 (io), 3 PB6 (io), 4 PB7 (io), 5 PD0/AIN0 (io), 6 PD1/AIN1 (io), 7 PD2/AIN2 (io), 8 PD3/AIN3 (io), 9 PD4/AIN4 (io), 10 PD5/AIN5 (io), 11 PD6/AIN6 (io), 12 PD7/AIN7 (io), 13 VDDA (power), 14 VSSA (power), 15 PF0/MCO (io), 16 PF1/BEEP (io), 17 PF2 (io), 18 PF4/OCMP1_A (io), 19 PF6 (HS)/ICAP1_A (io), 20 PF7 (HS)/EXTCLK_A (io), 21 VDD_0 (power), 22 VSS_0 (power), 23 PC0/OCMP2_B (io), 24 PC1/OCMP1_B (io), 25 PC2 (HS)/ICAP2_B (io), 26 PC3 (HS)/ICAP1_B (io), 27 PC4/MISO/ISPDATA (io), 28 PC5/MOSI (io), 29 PC6/SCK/ISPCLK (io), 30 PC7/~{SS} (io), 31 PA0 (io), 32 PA1 (io), 33 PA2 (io), 34 PA3 (io), 35 VDD_1 (power), 36 VSS_1 (power), 37 PA4 (HS) (io), 38 PA5 (HS) (io), 39 PA6 (HS) (io), 40 PA7 (HS) (io), 41 ISPSEL (in), 42 ~{RESET} (io), 43 VSS_2 (power), 44 OSC2 (out), 45 OSC1 (in), 46 VDD_2 (power), 47 PE0/TDO (io), 48 PE1/RDI (io), 49 PE4 (HS) (io), 50 PE5 (HS) (io), 51 PE6 (HS) (io), 52 PE7 (HS) (io), 53 PB0 (io), 54 PB1 (io), 55 PB2 (io), 56 PB3 (io)

## ST72C334N2B6
designator U?
8-Bit MCU with 8k FLASH Memory, 384b RAM, 256b EEPROM, ADC, 16-Bit Timers, SPI and SCI Interface, 56-Pin PDIP, Industrial; Note: Pins 1-4, 15-17, 31-34 and 53-56 are External Interrupt (EI) pins.; Published: 26-May-2004; DatasheetDocument: rev2.5, Apr-2003; PackageDocument: Jan-2002; PackageReference: PSDIP56; Publisher: Altium Limited
footprint PSDIP56 (DIP, Plastic Shrink; 56 Leads; Row Spacing 15.24 mm; Pitch 1.78 mm)
pins: 1 PB4 (io), 2 PB5 (io), 3 PB6 (io), 4 PB7 (io), 5 PD0/AIN0 (io), 6 PD1/AIN1 (io), 7 PD2/AIN2 (io), 8 PD3/AIN3 (io), 9 PD4/AIN4 (io), 10 PD5/AIN5 (io), 11 PD6/AIN6 (io), 12 PD7/AIN7 (io), 13 VDDA (power), 14 VSSA (power), 15 PF0/MCO (io), 16 PF1/BEEP (io), 17 PF2 (io), 18 PF4/OCMP1_A (io), 19 PF6 (HS)/ICAP1_A (io), 20 PF7 (HS)/EXTCLK_A (io), 21 VDD_0 (power), 22 VSS_0 (power), 23 PC0/OCMP2_B (io), 24 PC1/OCMP1_B (io), 25 PC2 (HS)/ICAP2_B (io), 26 PC3 (HS)/ICAP1_B (io), 27 PC4/MISO/ISPDATA (io), 28 PC5/MOSI (io), 29 PC6/SCK/ISPCLK (io), 30 PC7/~{SS} (io), 31 PA0 (io), 32 PA1 (io), 33 PA2 (io), 34 PA3 (io), 35 VDD_1 (power), 36 VSS_1 (power), 37 PA4 (HS) (io), 38 PA5 (HS) (io), 39 PA6 (HS) (io), 40 PA7 (HS) (io), 41 ISPSEL (in), 42 ~{RESET} (io), 43 VSS_2 (power), 44 OSC2 (out), 45 OSC1 (in), 46 VDD_2 (power), 47 PE0/TDO (io), 48 PE1/RDI (io), 49 PE4 (HS) (io), 50 PE5 (HS) (io), 51 PE6 (HS) (io), 52 PE7 (HS) (io), 53 PB0 (io), 54 PB1 (io), 55 PB2 (io), 56 PB3 (io)

## ST72C334N2T1
designator U?
8-Bit MCU with 8k FLASH Memory, 384b RAM, 256b EEPROM, ADC, 16-Bit Timers, SPI and SCI Interface, 64-Pin TQFP, Standard; PackageDocument: rev2.4, Jan-2002; Note: Pins 5-12, 25-27 and 43-46 are External Interrupt (EI) pins.; Published: 26-May-2004; DatasheetDocument: rev2.5, Apr-2003; PackageReference: TQFP64-0.8; Publisher: Altium Limited
footprint TQFP64-0.8 (QFP, Thin; 64 Leads; Body 14 x 14 mm; Pitch 0.8 mm)
pins: 1 PE4 (HS) (io), 2 PE5 (HS) (io), 3 PE6 (HS) (io), 4 PE7 (HS) (io), 5 PB0 (io), 6 PB1 (io), 7 PB2 (io), 8 PB3 (io), 9 PB4 (io), 10 PB5 (io), 11 PB6 (io), 12 PB7 (io), 13 PD0/AIN0 (io), 14 PD1/AIN1 (io), 15 PD2/AIN2 (io), 16 PD3/AIN3 (io), 17 PD4/AIN4 (io), 18 PD5/AIN5 (io), 19 PD6/AIN6 (io), 20 PD7/AIN7 (io), 21 VDDA (power), 22 VSSA (power), 23 VDD_3 (power), 24 VSS_3 (power), 25 PF0/MCO (io), 26 PF1/BEEP (io), 27 PF2 (io), 28 NC, 29 PF4/OCMP1_A (io), 30 NC, 31 PF6 (HS)/ICAP1_A (io), 32 PF7 (HS)/EXTCLK_A (io), 33 VDD_0 (power), 34 VSS_0 (power), 35 PC0/OCMP2_B (io), 36 PC1/OCMP1_B (io), 37 PC2 (HS)/ICAP2_B (io), 38 PC3 (HS)/ICAP1_B (io), 39 PC4/MISO/ISPDATA (io), 40 PC5/MOSI (io), 41 PC6/SCK/ISPCLK (io), 42 PC7/~{SS} (io), 43 PA0 (io), 44 PA1 (io), 45 PA2 (io), 46 PA3 (io), 47 VDD_1 (power), 48 VSS_1 (power), 49 PA4 (HS) (io), 50 PA5 (HS) (io), 51 PA6 (HS) (io), 52 PA7 (HS) (io), 53 ISPSEL (in), 54 ~{RESET} (io), 55 NC, 56 NC, 57 VSS_2 (power), 58 OSC2 (out), 59 OSC1 (in), 60 VDD_2 (power), 61 PE0/TDO (io), 62 PE1/RDI (io), 63 NC, 64 NC

## ST72C334N2T3
designator U?
8-Bit MCU with 8k FLASH Memory, 384b RAM, 256b EEPROM, ADC, 16-Bit Timers, SPI and SCI Interface, 64-Pin TQFP, Automotive; PackageDocument: rev2.4, Jan-2002; Note: Pins 5-12, 25-27 and 43-46 are External Interrupt (EI) pins.; Published: 26-May-2004; DatasheetDocument: rev2.5, Apr-2003; PackageReference: TQFP64-0.8; Publisher: Altium Limited
footprint TQFP64-0.8 (QFP, Thin; 64 Leads; Body 14 x 14 mm; Pitch 0.8 mm)
pins: 1 PE4 (HS) (io), 2 PE5 (HS) (io), 3 PE6 (HS) (io), 4 PE7 (HS) (io), 5 PB0 (io), 6 PB1 (io), 7 PB2 (io), 8 PB3 (io), 9 PB4 (io), 10 PB5 (io), 11 PB6 (io), 12 PB7 (io), 13 PD0/AIN0 (io), 14 PD1/AIN1 (io), 15 PD2/AIN2 (io), 16 PD3/AIN3 (io), 17 PD4/AIN4 (io), 18 PD5/AIN5 (io), 19 PD6/AIN6 (io), 20 PD7/AIN7 (io), 21 VDDA (power), 22 VSSA (power), 23 VDD_3 (power), 24 VSS_3 (power), 25 PF0/MCO (io), 26 PF1/BEEP (io), 27 PF2 (io), 28 NC, 29 PF4/OCMP1_A (io), 30 NC, 31 PF6 (HS)/ICAP1_A (io), 32 PF7 (HS)/EXTCLK_A (io), 33 VDD_0 (power), 34 VSS_0 (power), 35 PC0/OCMP2_B (io), 36 PC1/OCMP1_B (io), 37 PC2 (HS)/ICAP2_B (io), 38 PC3 (HS)/ICAP1_B (io), 39 PC4/MISO/ISPDATA (io), 40 PC5/MOSI (io), 41 PC6/SCK/ISPCLK (io), 42 PC7/~{SS} (io), 43 PA0 (io), 44 PA1 (io), 45 PA2 (io), 46 PA3 (io), 47 VDD_1 (power), 48 VSS_1 (power), 49 PA4 (HS) (io), 50 PA5 (HS) (io), 51 PA6 (HS) (io), 52 PA7 (HS) (io), 53 ISPSEL (in), 54 ~{RESET} (io), 55 NC, 56 NC, 57 VSS_2 (power), 58 OSC2 (out), 59 OSC1 (in), 60 VDD_2 (power), 61 PE0/TDO (io), 62 PE1/RDI (io), 63 NC, 64 NC

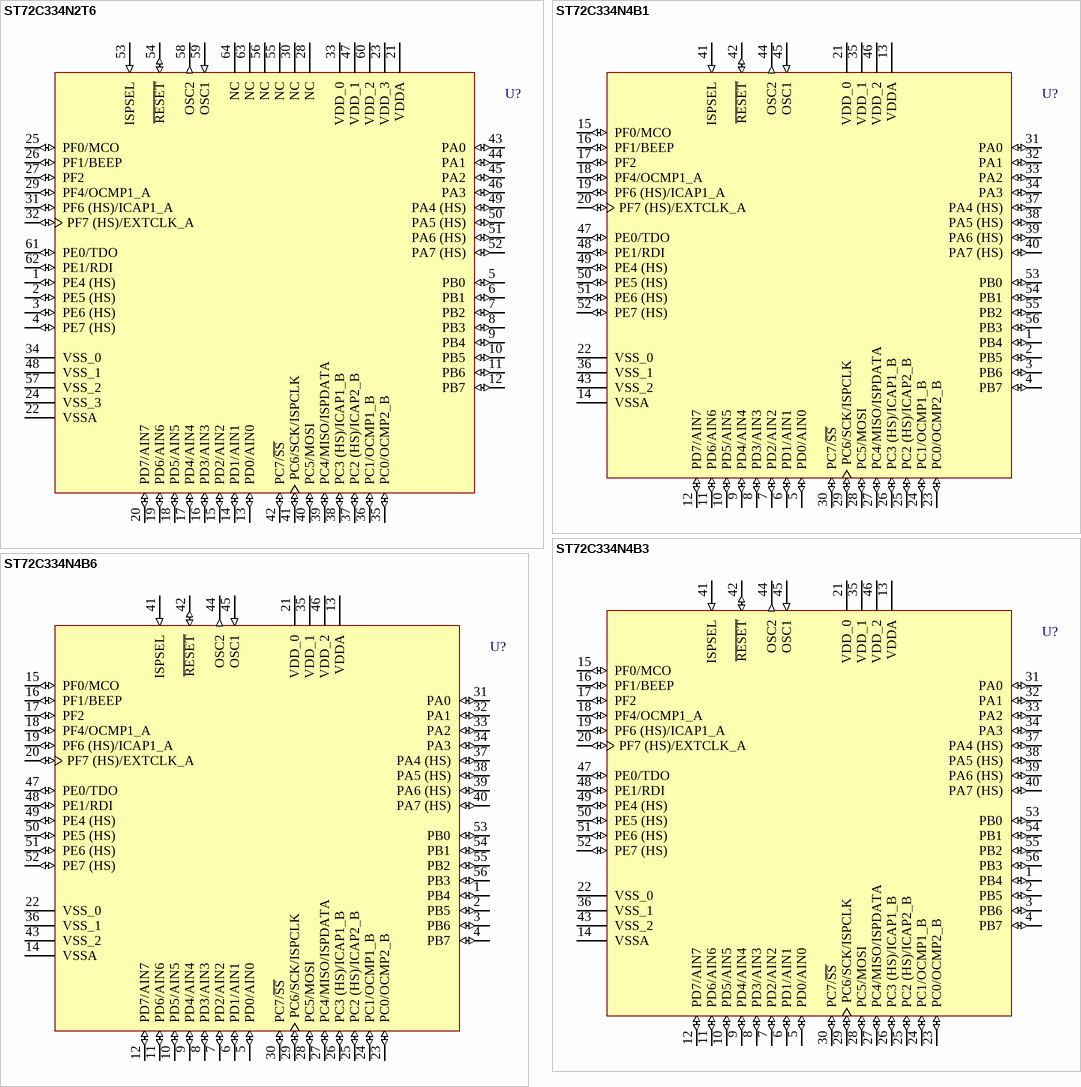
[diagram p31: symbols ST72C334N2T6 to ST72C334N4B6]

## ST72C334N2T6
designator U?
8-Bit MCU with 8k FLASH Memory, 384b RAM, 256b EEPROM, ADC, 16-Bit Timers, SPI and SCI Interface, 64-Pin TQFP, Industrial; PackageDocument: rev2.4, Jan-2002; Note: Pins 5-12, 25-27 and 43-46 are External Interrupt (EI) pins.; Published: 26-May-2004; DatasheetDocument: rev2.5, Apr-2003; PackageReference: TQFP64-0.8; Publisher: Altium Limited
footprint TQFP64-0.8 (QFP, Thin; 64 Leads; Body 14 x 14 mm; Pitch 0.8 mm)
pins: 1 PE4 (HS) (io), 2 PE5 (HS) (io), 3 PE6 (HS) (io), 4 PE7 (HS) (io), 5 PB0 (io), 6 PB1 (io), 7 PB2 (io), 8 PB3 (io), 9 PB4 (io), 10 PB5 (io), 11 PB6 (io), 12 PB7 (io), 13 PD0/AIN0 (io), 14 PD1/AIN1 (io), 15 PD2/AIN2 (io), 16 PD3/AIN3 (io), 17 PD4/AIN4 (io), 18 PD5/AIN5 (io), 19 PD6/AIN6 (io), 20 PD7/AIN7 (io), 21 VDDA (power), 22 VSSA (power), 23 VDD_3 (power), 24 VSS_3 (power), 25 PF0/MCO (io), 26 PF1/BEEP (io), 27 PF2 (io), 28 NC, 29 PF4/OCMP1_A (io), 30 NC, 31 PF6 (HS)/ICAP1_A (io), 32 PF7 (HS)/EXTCLK_A (io), 33 VDD_0 (power), 34 VSS_0 (power), 35 PC0/OCMP2_B (io), 36 PC1/OCMP1_B (io), 37 PC2 (HS)/ICAP2_B (io), 38 PC3 (HS)/ICAP1_B (io), 39 PC4/MISO/ISPDATA (io), 40 PC5/MOSI (io), 41 PC6/SCK/ISPCLK (io), 42 PC7/~{SS} (io), 43 PA0 (io), 44 PA1 (io), 45 PA2 (io), 46 PA3 (io), 47 VDD_1 (power), 48 VSS_1 (power), 49 PA4 (HS) (io), 50 PA5 (HS) (io), 51 PA6 (HS) (io), 52 PA7 (HS) (io), 53 ISPSEL (in), 54 ~{RESET} (io), 55 NC, 56 NC, 57 VSS_2 (power), 58 OSC2 (out), 59 OSC1 (in), 60 VDD_2 (power), 61 PE0/TDO (io), 62 PE1/RDI (io), 63 NC, 64 NC

## ST72C334N4B1
designator U?
8-Bit MCU with 16k FLASH Memory, 512b RAM, 256b EEPROM, ADC, 16-Bit Timers, SPI and SCI Interface, 56-Pin PDIP, Standard; Note: Pins 1-4, 15-17, 31-34 and 53-56 are External Interrupt (EI) pins.; Published: 26-May-2004; DatasheetDocument: rev2.5, Apr-2003; PackageDocument: Jan-2002; PackageReference: PSDIP56; Publisher: Altium Limited
footprint PSDIP56 (DIP, Plastic Shrink; 56 Leads; Row Spacing 15.24 mm; Pitch 1.78 mm)
pins: 1 PB4 (io), 2 PB5 (io), 3 PB6 (io), 4 PB7 (io), 5 PD0/AIN0 (io), 6 PD1/AIN1 (io), 7 PD2/AIN2 (io), 8 PD3/AIN3 (io), 9 PD4/AIN4 (io), 10 PD5/AIN5 (io), 11 PD6/AIN6 (io), 12 PD7/AIN7 (io), 13 VDDA (power), 14 VSSA (power), 15 PF0/MCO (io), 16 PF1/BEEP (io), 17 PF2 (io), 18 PF4/OCMP1_A (io), 19 PF6 (HS)/ICAP1_A (io), 20 PF7 (HS)/EXTCLK_A (io), 21 VDD_0 (power), 22 VSS_0 (power), 23 PC0/OCMP2_B (io), 24 PC1/OCMP1_B (io), 25 PC2 (HS)/ICAP2_B (io), 26 PC3 (HS)/ICAP1_B (io), 27 PC4/MISO/ISPDATA (io), 28 PC5/MOSI (io), 29 PC6/SCK/ISPCLK (io), 30 PC7/~{SS} (io), 31 PA0 (io), 32 PA1 (io), 33 PA2 (io), 34 PA3 (io), 35 VDD_1 (power), 36 VSS_1 (power), 37 PA4 (HS) (io), 38 PA5 (HS) (io), 39 PA6 (HS) (io), 40 PA7 (HS) (io), 41 ISPSEL (in), 42 ~{RESET} (io), 43 VSS_2 (power), 44 OSC2 (out), 45 OSC1 (in), 46 VDD_2 (power), 47 PE0/TDO (io), 48 PE1/RDI (io), 49 PE4 (HS) (io), 50 PE5 (HS) (io), 51 PE6 (HS) (io), 52 PE7 (HS) (io), 53 PB0 (io), 54 PB1 (io), 55 PB2 (io), 56 PB3 (io)

## ST72C334N4B3
designator U?
8-Bit MCU with 16k FLASH Memory, 512b RAM, 256b EEPROM, ADC, 16-Bit Timers, SPI and SCI Interface, 56-Pin PDIP, Automotive; Note: Pins 1-4, 15-17, 31-34 and 53-56 are External Interrupt (EI) pins.; Published: 26-May-2004; DatasheetDocument: rev2.5, Apr-2003; PackageDocument: Jan-2002; PackageReference: PSDIP56; Publisher: Altium Limited
footprint PSDIP56 (DIP, Plastic Shrink; 56 Leads; Row Spacing 15.24 mm; Pitch 1.78 mm)
pins: 1 PB4 (io), 2 PB5 (io), 3 PB6 (io), 4 PB7 (io), 5 PD0/AIN0 (io), 6 PD1/AIN1 (io), 7 PD2/AIN2 (io), 8 PD3/AIN3 (io), 9 PD4/AIN4 (io), 10 PD5/AIN5 (io), 11 PD6/AIN6 (io), 12 PD7/AIN7 (io), 13 VDDA (power), 14 VSSA (power), 15 PF0/MCO (io), 16 PF1/BEEP (io), 17 PF2 (io), 18 PF4/OCMP1_A (io), 19 PF6 (HS)/ICAP1_A (io), 20 PF7 (HS)/EXTCLK_A (io), 21 VDD_0 (power), 22 VSS_0 (power), 23 PC0/OCMP2_B (io), 24 PC1/OCMP1_B (io), 25 PC2 (HS)/ICAP2_B (io), 26 PC3 (HS)/ICAP1_B (io), 27 PC4/MISO/ISPDATA (io), 28 PC5/MOSI (io), 29 PC6/SCK/ISPCLK (io), 30 PC7/~{SS} (io), 31 PA0 (io), 32 PA1 (io), 33 PA2 (io), 34 PA3 (io), 35 VDD_1 (power), 36 VSS_1 (power), 37 PA4 (HS) (io), 38 PA5 (HS) (io), 39 PA6 (HS) (io), 40 PA7 (HS) (io), 41 ISPSEL (in), 42 ~{RESET} (io), 43 VSS_2 (power), 44 OSC2 (out), 45 OSC1 (in), 46 VDD_2 (power), 47 PE0/TDO (io), 48 PE1/RDI (io), 49 PE4 (HS) (io), 50 PE5 (HS) (io), 51 PE6 (HS) (io), 52 PE7 (HS) (io), 53 PB0 (io), 54 PB1 (io), 55 PB2 (io), 56 PB3 (io)

## ST72C334N4B6
designator U?
8-Bit MCU with 16k FLASH Memory, 512b RAM, 256b EEPROM, ADC, 16-Bit Timers, SPI and SCI Interface, 56-Pin PDIP, Industrial; Note: Pins 1-4, 15-17, 31-34 and 53-56 are External Interrupt (EI) pins.; Published: 26-May-2004; DatasheetDocument: rev2.5, Apr-2003; PackageDocument: Jan-2002; PackageReference: PSDIP56; Publisher: Altium Limited
footprint PSDIP56 (DIP, Plastic Shrink; 56 Leads; Row Spacing 15.24 mm; Pitch 1.78 mm)
pins: 1 PB4 (io), 2 PB5 (io), 3 PB6 (io), 4 PB7 (io), 5 PD0/AIN0 (io), 6 PD1/AIN1 (io), 7 PD2/AIN2 (io), 8 PD3/AIN3 (io), 9 PD4/AIN4 (io), 10 PD5/AIN5 (io), 11 PD6/AIN6 (io), 12 PD7/AIN7 (io), 13 VDDA (power), 14 VSSA (power), 15 PF0/MCO (io), 16 PF1/BEEP (io), 17 PF2 (io), 18 PF4/OCMP1_A (io), 19 PF6 (HS)/ICAP1_A (io), 20 PF7 (HS)/EXTCLK_A (io), 21 VDD_0 (power), 22 VSS_0 (power), 23 PC0/OCMP2_B (io), 24 PC1/OCMP1_B (io), 25 PC2 (HS)/ICAP2_B (io), 26 PC3 (HS)/ICAP1_B (io), 27 PC4/MISO/ISPDATA (io), 28 PC5/MOSI (io), 29 PC6/SCK/ISPCLK (io), 30 PC7/~{SS} (io), 31 PA0 (io), 32 PA1 (io), 33 PA2 (io), 34 PA3 (io), 35 VDD_1 (power), 36 VSS_1 (power), 37 PA4 (HS) (io), 38 PA5 (HS) (io), 39 PA6 (HS) (io), 40 PA7 (HS) (io), 41 ISPSEL (in), 42 ~{RESET} (io), 43 VSS_2 (power), 44 OSC2 (out), 45 OSC1 (in), 46 VDD_2 (power), 47 PE0/TDO (io), 48 PE1/RDI (io), 49 PE4 (HS) (io), 50 PE5 (HS) (io), 51 PE6 (HS) (io), 52 PE7 (HS) (io), 53 PB0 (io), 54 PB1 (io), 55 PB2 (io), 56 PB3 (io)

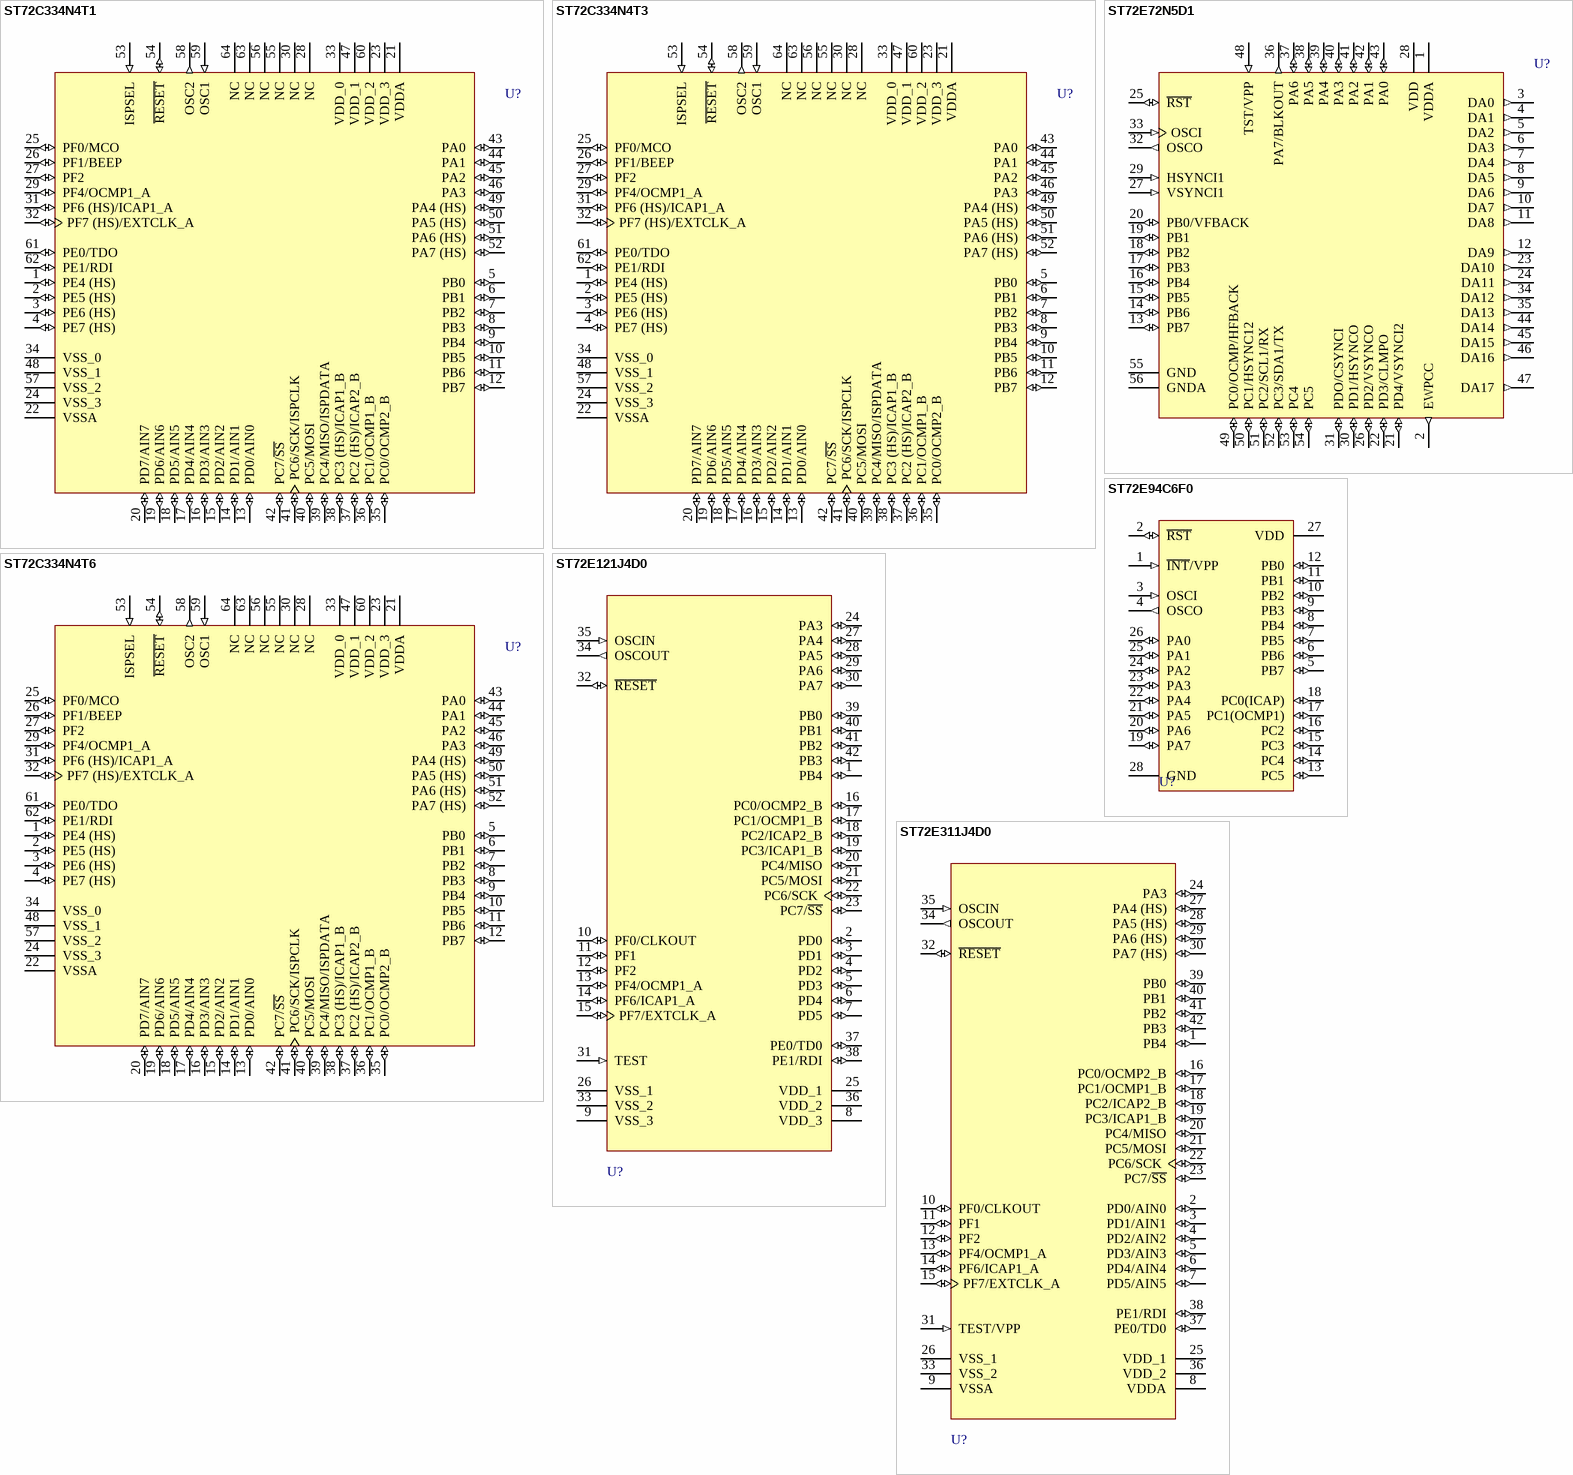
[diagram p32: symbols ST72C334N4T1 to ST72E311J4D0]

## ST72C334N4T1
designator U?
8-Bit MCU with 16k FLASH Memory, 512b RAM, 256b EEPROM, ADC, 16-Bit Timers, SPI and SCI Interface, 64-Pin TQFP, Standard; PackageDocument: rev2.4, Jan-2002; Note: Pins 5-12, 25-27 and 43-46 are External Interrupt (EI) pins.; Published: 26-May-2004; DatasheetDocument: rev2.5, Apr-2003; PackageReference: TQFP64-0.8; Publisher: Altium Limited
footprint TQFP64-0.8 (QFP, Thin; 64 Leads; Body 14 x 14 mm; Pitch 0.8 mm)
pins: 1 PE4 (HS) (io), 2 PE5 (HS) (io), 3 PE6 (HS) (io), 4 PE7 (HS) (io), 5 PB0 (io), 6 PB1 (io), 7 PB2 (io), 8 PB3 (io), 9 PB4 (io), 10 PB5 (io), 11 PB6 (io), 12 PB7 (io), 13 PD0/AIN0 (io), 14 PD1/AIN1 (io), 15 PD2/AIN2 (io), 16 PD3/AIN3 (io), 17 PD4/AIN4 (io), 18 PD5/AIN5 (io), 19 PD6/AIN6 (io), 20 PD7/AIN7 (io), 21 VDDA (power), 22 VSSA (power), 23 VDD_3 (power), 24 VSS_3 (power), 25 PF0/MCO (io), 26 PF1/BEEP (io), 27 PF2 (io), 28 NC, 29 PF4/OCMP1_A (io), 30 NC, 31 PF6 (HS)/ICAP1_A (io), 32 PF7 (HS)/EXTCLK_A (io), 33 VDD_0 (power), 34 VSS_0 (power), 35 PC0/OCMP2_B (io), 36 PC1/OCMP1_B (io), 37 PC2 (HS)/ICAP2_B (io), 38 PC3 (HS)/ICAP1_B (io), 39 PC4/MISO/ISPDATA (io), 40 PC5/MOSI (io), 41 PC6/SCK/ISPCLK (io), 42 PC7/~{SS} (io), 43 PA0 (io), 44 PA1 (io), 45 PA2 (io), 46 PA3 (io), 47 VDD_1 (power), 48 VSS_1 (power), 49 PA4 (HS) (io), 50 PA5 (HS) (io), 51 PA6 (HS) (io), 52 PA7 (HS) (io), 53 ISPSEL (in), 54 ~{RESET} (io), 55 NC, 56 NC, 57 VSS_2 (power), 58 OSC2 (out), 59 OSC1 (in), 60 VDD_2 (power), 61 PE0/TDO (io), 62 PE1/RDI (io), 63 NC, 64 NC

## ST72C334N4T3
designator U?
8-Bit MCU with 16k FLASH Memory, 512b RAM, 256b EEPROM, ADC, 16-Bit Timers, SPI and SCI Interface, 64-Pin TQFP, Automotive; PackageDocument: rev2.4, Jan-2002; Note: Pins 5-12, 25-27 and 43-46 are External Interrupt (EI) pins.; Published: 26-May-2004; DatasheetDocument: rev2.5, Apr-2003; PackageReference: TQFP64-0.8; Publisher: Altium Limited
footprint TQFP64-0.8 (QFP, Thin; 64 Leads; Body 14 x 14 mm; Pitch 0.8 mm)
pins: 1 PE4 (HS) (io), 2 PE5 (HS) (io), 3 PE6 (HS) (io), 4 PE7 (HS) (io), 5 PB0 (io), 6 PB1 (io), 7 PB2 (io), 8 PB3 (io), 9 PB4 (io), 10 PB5 (io), 11 PB6 (io), 12 PB7 (io), 13 PD0/AIN0 (io), 14 PD1/AIN1 (io), 15 PD2/AIN2 (io), 16 PD3/AIN3 (io), 17 PD4/AIN4 (io), 18 PD5/AIN5 (io), 19 PD6/AIN6 (io), 20 PD7/AIN7 (io), 21 VDDA (power), 22 VSSA (power), 23 VDD_3 (power), 24 VSS_3 (power), 25 PF0/MCO (io), 26 PF1/BEEP (io), 27 PF2 (io), 28 NC, 29 PF4/OCMP1_A (io), 30 NC, 31 PF6 (HS)/ICAP1_A (io), 32 PF7 (HS)/EXTCLK_A (io), 33 VDD_0 (power), 34 VSS_0 (power), 35 PC0/OCMP2_B (io), 36 PC1/OCMP1_B (io), 37 PC2 (HS)/ICAP2_B (io), 38 PC3 (HS)/ICAP1_B (io), 39 PC4/MISO/ISPDATA (io), 40 PC5/MOSI (io), 41 PC6/SCK/ISPCLK (io), 42 PC7/~{SS} (io), 43 PA0 (io), 44 PA1 (io), 45 PA2 (io), 46 PA3 (io), 47 VDD_1 (power), 48 VSS_1 (power), 49 PA4 (HS) (io), 50 PA5 (HS) (io), 51 PA6 (HS) (io), 52 PA7 (HS) (io), 53 ISPSEL (in), 54 ~{RESET} (io), 55 NC, 56 NC, 57 VSS_2 (power), 58 OSC2 (out), 59 OSC1 (in), 60 VDD_2 (power), 61 PE0/TDO (io), 62 PE1/RDI (io), 63 NC, 64 NC

## ST72C334N4T6
designator U?
8-Bit MCU with 16k FLASH Memory, 512b RAM, 256b EEPROM, ADC, 16-Bit Timers, SPI and SCI Interface, 64-Pin TQFP, Industrial; PackageDocument: rev2.4, Jan-2002; Note: Pins 5-12, 25-27 and 43-46 are External Interrupt (EI) pins.; Published: 26-May-2004; DatasheetDocument: rev2.5, Apr-2003; PackageReference: TQFP64-0.8; Publisher: Altium Limited
footprint TQFP64-0.8 (QFP, Thin; 64 Leads; Body 14 x 14 mm; Pitch 0.8 mm)
pins: 1 PE4 (HS) (io), 2 PE5 (HS) (io), 3 PE6 (HS) (io), 4 PE7 (HS) (io), 5 PB0 (io), 6 PB1 (io), 7 PB2 (io), 8 PB3 (io), 9 PB4 (io), 10 PB5 (io), 11 PB6 (io), 12 PB7 (io), 13 PD0/AIN0 (io), 14 PD1/AIN1 (io), 15 PD2/AIN2 (io), 16 PD3/AIN3 (io), 17 PD4/AIN4 (io), 18 PD5/AIN5 (io), 19 PD6/AIN6 (io), 20 PD7/AIN7 (io), 21 VDDA (power), 22 VSSA (power), 23 VDD_3 (power), 24 VSS_3 (power), 25 PF0/MCO (io), 26 PF1/BEEP (io), 27 PF2 (io), 28 NC, 29 PF4/OCMP1_A (io), 30 NC, 31 PF6 (HS)/ICAP1_A (io), 32 PF7 (HS)/EXTCLK_A (io), 33 VDD_0 (power), 34 VSS_0 (power), 35 PC0/OCMP2_B (io), 36 PC1/OCMP1_B (io), 37 PC2 (HS)/ICAP2_B (io), 38 PC3 (HS)/ICAP1_B (io), 39 PC4/MISO/ISPDATA (io), 40 PC5/MOSI (io), 41 PC6/SCK/ISPCLK (io), 42 PC7/~{SS} (io), 43 PA0 (io), 44 PA1 (io), 45 PA2 (io), 46 PA3 (io), 47 VDD_1 (power), 48 VSS_1 (power), 49 PA4 (HS) (io), 50 PA5 (HS) (io), 51 PA6 (HS) (io), 52 PA7 (HS) (io), 53 ISPSEL (in), 54 ~{RESET} (io), 55 NC, 56 NC, 57 VSS_2 (power), 58 OSC2 (out), 59 OSC1 (in), 60 VDD_2 (power), 61 PE0/TDO (io), 62 PE1/RDI (io), 63 NC, 64 NC